# Altium schematic symbol library Personal_Schematic_Library_2022.SchLib: 863 symbols (part 4 of 8)
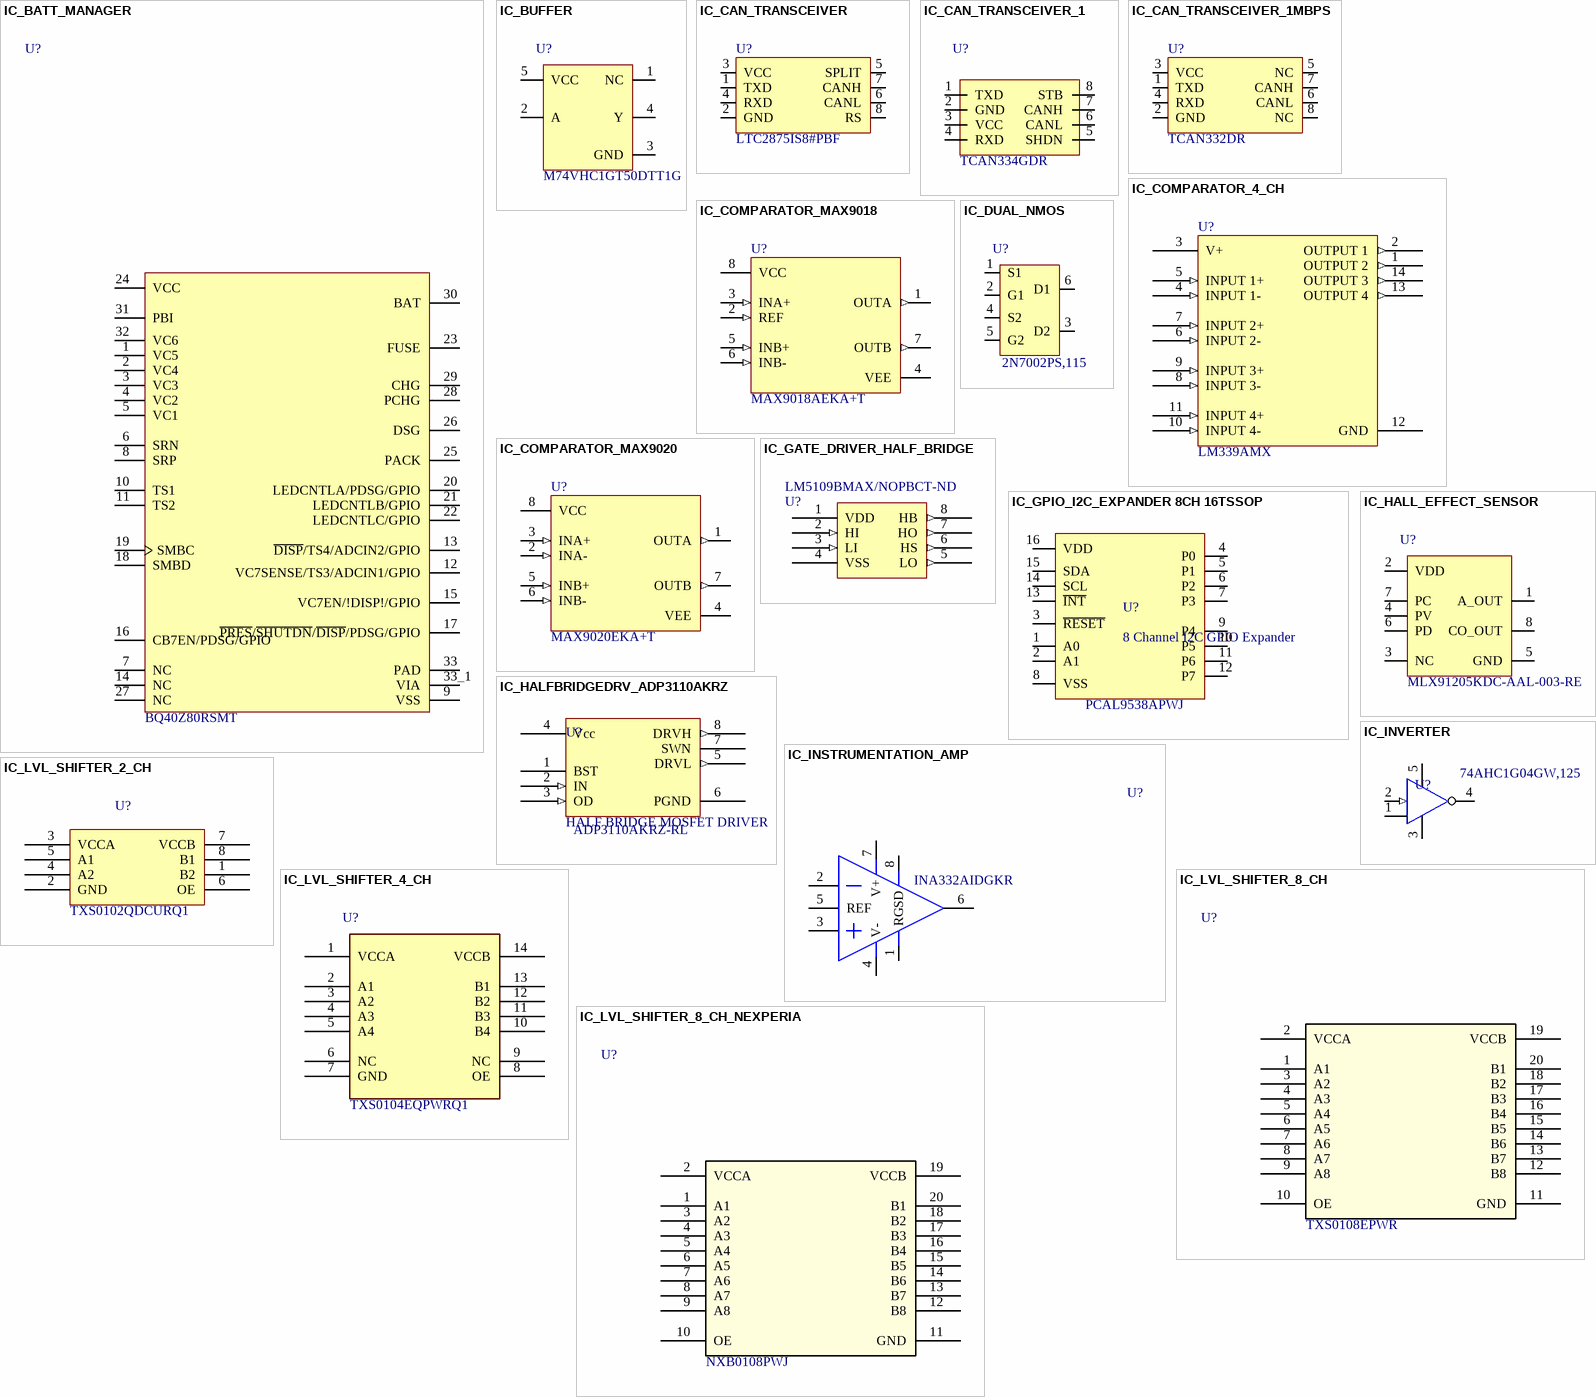
[diagram p32: symbols IC_BATT_MANAGER to IC_LVL_SHIFTER_8_CH_NEXPERIA]

## IC_DUAL_NMOS
designator U?  Manufacturer Part Number 1: 2N7002PS,115
IC DUAL N-CHANNEL MOSFET; Manufacturer 1: Nexperia; Supplier 1: Digi-Key; Supplier Part Number 1: 1727-4791-1-ND
footprint SOT-363
pins: 1 S1, 2 G1, 3 D2, 4 S2, 5 G2, 6 D1

## IC_GATE_DRIVER_HALF_BRIDGE
designator U?, comment LM5109BMAX/NOPBCT-ND
Half Bridge Based MOSFET Driver, 1A, PDSO8; Manufacturer: TI National Semiconductor; Package Body Material: Plastic; High Side Driver: Yes; Number of Functions: 1; Package Equivalence Code: SOP8,.25; Power Supplies: 12V; Max Supply Voltage: 14V; Min Supply Voltage: 8V; Turn-Off Delay Time: 0.056us; Qualification Status: Not Qualified; Supplier 1: Digi-Key; Manufacturer Part Number: LM5109BMAX/NOPB; RoHS: Yes; Category: Gate Drivers; Stock 1: 42623; Pricing 1: 1=1.05000, 10=0.93500, 25=0.88760, 100=0.72900, 250=0.68144, 500=0.60218, 1000=0.52325 (USD); Package Code: SOP; Number of Pins: 8; Package Shape: Rectangular; Terminal Finish: Tin; Min Operating Temperature: -40°C; Max Operating Temperature: 125°C; JESD-609 Code: e3; Interface IC Type: HALF BRIDGE BASED MOSFET DRIVER; JESD-30 Code: R-PDSO-G8; Moisture Sensitivity Level: 1; Package Style: SMALL OUTLINEMeter; Peak Reflow Temperature (Cel): 260°C; Supply Voltage-Nom: 12V; Surface Mount: Yes; Terminal Form: Gull Wing; Terminal Position: DUAL; Turn-On Delay Time: 0.056us; Length: 4.9mm; Width: 3.9mm; Height - Seated (Max): 1.75mm; Terminal Pitch: 1.27mm; Temperature Grade: AUTOMOTIVE; REACH SVHC: Yes; RoHS Compliant: Yes; ComponentLink1URL: https://www.ti.com:443/lit/ds/symlink/lm5109b.pdf?src-supplier=IHS+Markit; ComponentLink1Description: https://www.ti.com:443/lit/ds/symlink/lm5109b.pdf?src-supplier=IHS+Markit; ComponentLink2URL: https://datasheet.ciiva.com/6609/lm5109b-6609744.pdf?src-supplier=Digi-Key; ComponentLink2Description: https://datasheet.ciiva.com/6609/lm5109b-6609744.pdf?src-supplier=Digi-Key; ComponentLink3URL: https://datasheet.ciiva.com/41458/001014174-da-01-en-ic-dvr-half-b-lm5109bmax-nopb-soic-8-tid-41458460.pdf?src-supplier=Conrad; ComponentLink3Description: https://datasheet.ciiva.com/41458/001014174-da-01-en-ic-dvr-half-b-lm5109bmax-nopb-soic-8-tid-41458460.pdf?src-supplier=Conrad; ComponentLink4URL: https://datasheet.ciiva.com/6609/lm5109b-6609743.pdf?src-supplier=Digi-Key; ComponentLink4Description: https://datasheet.ciiva.com/6609/lm5109b-6609743.pdf?src-supplier=Digi-Key; Supplier Part Number 1: LM5109BMAX/NOPBCT-ND
footprint SOIC127P599X175-8N
pins: 1 VDD (power), 2 HI (in), 3 LI (in), 4 VSS (power), 5 LO (out), 6 HS (out), 7 HO (out), 8 HB (out)

## IC_GPIO_I2C_EXPANDER 8CH 16TSSOP
designator U?, comment 8 Channel I2C GPIO Expander
Manufacturer: NXP USA Inc.; Voltage - Supply: 1.65V ~ 5.5V; Clock Frequency: 400 kHz; Current - Output Source/Sink: 10mA, 25mA; Supplier 1: Digi-Key; Package / Case: 16-TSSOP; Operating Temperature: -40°C ~ 85°C; Supplier Part Number 1: 568-9924-1-ND
footprint TSSOP16
pins: 1 A0, 2 A1, 3 ~{RESET}, 4 P0, 5 P1, 6 P2, 7 P3, 8 VSS, 9 P4, 10 P5, 11 P6, 12 P7, 13 ~{INT}, 14 SCL, 15 SDA, 16 VDD
text: PCAL9538APWJ

## IC_HALFBRIDGEDRV_ADP3110AKRZ
designator U?, comment HALF BRIDGE MOSFET DRIVER  Manufacturer Part Number: ADP3110AKRZ-RL
Half Bridge Based MOSFET Driver, PDSO8; Manufacturer: ON Semiconductor; Package Body Material: Plastic; High Side Driver: Yes; Number of Functions: 1; Package Equivalence Code: SOP8,.25; Power Supplies: 12V; Max Supply Voltage: 13.2V; Min Supply Voltage: 4.15V; Turn-Off Delay Time: 0.07us; Turn-On Delay Time: 0.04us; Qualification Status: Not Qualified; Supplier 1: Digi-Key; RoHS: Yes; Category: Gate Drivers; Stock 1: 765; Pricing 1: 1=0.63000, 10=0.53700, 25=0.50080, 100=0.40070, 250=0.37208, 500=0.31482, 1000=0.24327 (USD); Package Code: SOP; Number of Pins: 8; Package Shape: Rectangular; Terminal Finish: Tin; Min Operating Temperature: 0°C; Max Operating Temperature: 85°C; JESD-609 Code: e3; Interface IC Type: HALF BRIDGE BASED MOSFET DRIVER; JESD-30 Code: R-PDSO-G8; Moisture Sensitivity Level: 1; Package Style: SMALL OUTLINEMeter; Supply Voltage-Nom: 12V; Surface Mount: Yes; Terminal Form: Gull Wing; Terminal Position: DUAL; Length: 4.9mm; Width: 3.9mm; Height - Seated (Max): 1.75mm; Terminal Pitch: 1.27mm; Temperature Grade: OTHER; REACH SVHC: Yes; RoHS Compliant: Yes; ComponentLink1URL: https://datasheet.ciiva.com:443/pdfs/VipMasterIC/IC/ONSM/ONSMS15049/ONSMS15049-1.pdf?src-supplier=IHS+Markit; ComponentLink1Description: https://datasheet.ciiva.com:443/pdfs/VipMasterIC/IC/ONSM/ONSMS15049/ONSMS15049-1.pdf?src-supplier=IHS+Markit; ComponentLink2URL: https://datasheet.ciiva.com/6613/adp3110a-d-6613106.pdf?src-supplier=Digi-Key; ComponentLink2Description: https://datasheet.ciiva.com/6613/adp3110a-d-6613106.pdf?src-supplier=Digi-Key; Supplier Part Number 1: ADP3110AKRZ-RLOSCT-ND
footprint 8-SOIC_M (SOIC, 8-Leads, Body 5x4mm, Pitch 1.27mm, IPC Low Density)
pins: 1 BST, 2 IN (in), 3 OD (in), 4 Vcc (power), 5 DRVL (out), 6 PGND (power), 7 SWN, 8 DRVH (out)

## IC_HALL_EFFECT_SENSOR
designator U?  Manufacturer Part Number 1: MLX91205KDC-AAL-003-RE  (hidden comment: IC_HALL_EFFECT_SENSOR)
SENSOR CURRENT HALL 10MT AC/DC; Manufacturer 1: Melexis; Package/Footprint: 8-SOIC; Linearity: 0.5%; Accuracy: 2%; Operating Supply Current: 11mA; Response Time: 8us; Max Supply Current: 16mA; Polarity: Bidirectional; Number of Channels: 1; Frequency: 100kHz; Output Current: 1mA; Supplier 1: Digi-Key; Mounting Type: SMD; Number of Pins: 8; Package Quantity: 1; Packaging: Tape and Reel; Supplier Part Number 1: MLX91205KDC-AAL-003-RECT-ND
footprint 8-SOIC_M (SOIC, 8-Leads, Body 5x4mm, Pitch 1.27mm, IPC Low Density)
pins: 1 A_OUT, 2 VDD, 3 NC, 4 PV, 5 GND, 6 PD, 7 PC, 8 CO_OUT

## IC_INSTRUMENTATION_AMP
designator U?  Manufacturer Part Number 1: INA332AIDGKR
IC INSTRUMENTATION AMP 1 CIRCUIT 8VSSOP; Manufacturer 1: Texas Instruments; Supplier 1: Digi-Key; Mounting Type: SMD; Supplier Part Number 1: 296-41265-1-ND; Package: 8-VSSOP
footprint INA332AIDGKR (Instrumentation amplifier, 8-VSSOP)
pins: 1 RG (power), 2 IN-, 3 IN+, 4 V-, 5 REF (power), 6 Vout, 7 V+ (power), 8 SD (power)

## IC_INVERTER
designator U?  Manufacturer Part Number 1: 74AHC1G04GW,125
IC INVERTER 1CH 1-INP 5TSSOP; Manufacturer 1: Nexperia USA Inc.; Package/Footprint: 5-TSSOP; Verfified: No; Supplier 1: Digi-Key; Supplier Part Number 1: 1727-3147-1-ND; Mounting Type: SMD; LCSC Part #: *
footprint SOT353 (TSSOP5, SC-70-5)
pins: 1 NC (hiz), 2 A (in), 3 GND, 4 Y, 5 Vcc

## IC_LVL_SHIFTER_2_CH
designator U?  Manufacturer Part Number 1: TXS0102QDCURQ1
IC TRNSLTR BIDIRECTIONAL US8; Manufacturer 1: Texas Instruments; Supplier 1: Digi-Key; Supplier Part Number 1: 296-37938-1-ND
footprint TXS0102QDCURQ1
pins: 1 B2, 2 GND, 3 VCCA, 4 A2, 5 A1, 6 OE, 7 VCCB, 8 B1

## IC_LVL_SHIFTER_4_CH
designator U?  Manufacturer Part Number 1: TXS0104EQPWRQ1
IC BIDIRECTIONAL LEVEL SHIFTER 4 CHANNEL 14TSSOP; Manufacturer 1: Texas Instruments; Data Rate: 24Mbps; Package/Footprint: 14-TSSOP; VCCA Voltage: 1.65 V ~ 3.6 V; VCCB Voltage: 2.3 V ~ 5.5 V; VCCA Max: 3V6 MAX; VCCB Max: 5V5 MAX; Supplier 1: Digi-Key; Mounting Type: SMD; Supplier Part Number 1: 296-41034-1-ND
footprint TXS0104EQPWRQ1
pins: 1 VCCA, 2 A1, 3 A2, 4 A3, 5 A4, 6 NC, 7 GND, 8 OE, 9 NC, 10 B4, 11 B3, 12 B2, 13 B1, 14 VCCB

## IC_LVL_SHIFTER_8_CH
designator U?  Manufacturer Part Number 1: TXS0108EPWR  (hidden comment: IC_LVL_SHIFTER_8_CH)
IC BIDIRECTIONAL LEVEL SHIFTER 8 CHANNEL 20TSSOP; Manufacturer 1: Texas Instruments; Package/Footprint: 20-TSSOP; Supplier 1: Digi-Key; Supplier Part Number 1: 296-23011-1-ND; Mounting Type: SMD
footprint LEVEL_SHIFTER_8_CHANNEL
pins: 1 A1, 2 VCCA, 3 A2, 4 A3, 5 A4, 6 A5, 7 A6, 8 A7, 9 A8, 10 OE, 11 GND, 12 B8, 13 B7, 14 B6, 15 B5, 16 B4, 17 B3, 18 B2, 19 VCCB, 20 B1

## IC_LVL_SHIFTER_8_CH_NEXPERIA
designator U?, comment Manufacturer Part Number 1: NXB0108PWJ  (hidden comment: IC_LVL_SHIFTER_8_CH)
IC BIDIRECTIONAL LEVEL SHIFTER 8 CHANNEL 20TSSOP NEXPERIA; Manufacturer 1: Nexperia USA Inc.; Package/Footprint: 20-TSSOP; Mounting Type: SMD; Supplier 1: Digi-Key; Supplier Part Number 1: 1727-NXB0108PWJDKR-ND
footprint LEVEL_SHIFTER_8_CHANNEL
pins: 1 A1, 2 VCCA, 3 A2, 4 A3, 5 A4, 6 A5, 7 A6, 8 A7, 9 A8, 10 OE, 11 GND, 12 B8, 13 B7, 14 B6, 15 B5, 16 B4, 17 B3, 18 B2, 19 VCCB, 20 B1

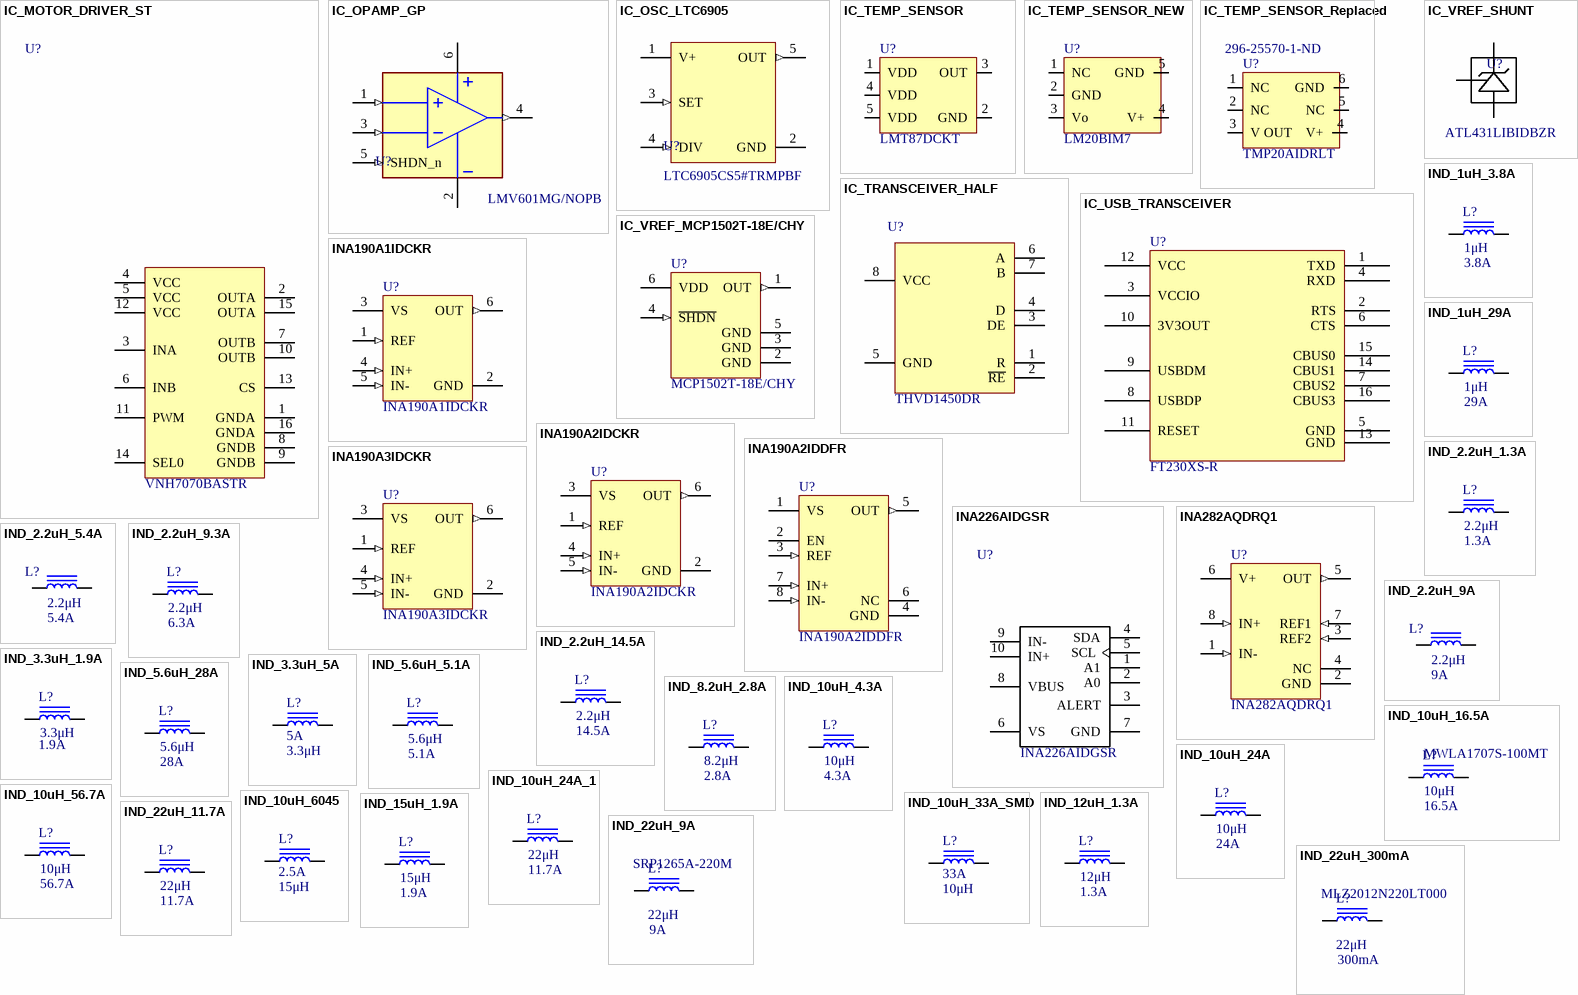
[diagram p11: symbols IC_MOTOR_DRIVER_ST to IND_22uH_300mA]

## IC_MOTOR_DRIVER_ST
designator U?  Manufacturer Part Number 1: VNH7070BASTR
IC MOTOR DRIVER 4V-28V 16SOIC; Manufacturer 1: STMicroelectronics; Package/Footprint: 16-SOIC; Output Current: 15A; Mounting Type: SMD; Verified: Yes; Supplier 1: Digi-Key; Supplier Part Number 1: 497-17628-1-ND
footprint SO-16N
pins: 1 GNDA (power) "Source of low-side switch A", 2 OUTA "Source of high-side switch A / drain of low-side switch A", 3 INA "Clockwise input", 4 VCC (power) "Power supply voltage", 5 VCC (power) "Power supply voltage", 6 INB "Counter clockwise input", 7 OUTB "Source of high-side switch B / drain of low-side switch B", 8 GNDB (power) "Source of low-side switch B", 9 GNDB (power) "Source of low-side switch B", 10 OUTB "Source of high-side switch B / drain of low-side switch B", 11 PWM "Voltage controlled input pin with hysteresis, CMOS compatible. Gates of low-side FETS get modulated by the PWM signal during their on phase allowing speed control of the motor", 12 VCC (power) "Power supply voltage", 13 CS "Multiplexed analog sense output pin; it delivers a current proportional to the motor current according to the leg selection.", 14 SEL0 "Active high compatible with 3 V and 5 V CMOS outputs pin; in combination with INA, INB, it addresses the CurrentSense information delivered to the micro according to the operative truth table.", 15 OUTA "Source of high-side switch A / drain of low-side switch A", 16 GNDA (power) "Source of low-side switch A"

## IC_OPAMP_GP
designator U?, comment LMV601MG/NOPB
IC OPAMP GP 1 CIRCUIT SC70-6; Manufacturer: Texas Instruments; Ratings: 2.7-5.5V, -25-125degC, 1MHz; Manufacturer Part Number: LMV601MG/NOPB; Value: LMV601MG/NOPB
footprint SOT65P210X110-6N
pins: 1 IN+ (in), 2 GND (power), 3 IN- (in), 4 OUT (out), 5 SHDN_n (in), 6 V+ (power)

## IC_OSC_LTC6905
designator U?, comment LTC6905CS5#TRMPBF
IC OSC SILICON PROG TSOT23-5; Manufacturer 1: Analog Devices Inc.; Package/Footprint: SOT-23-5; Manufacturer Part Number 1: LTC6905CS5#TRMPBF; Supplier 1: Digi-Key; Supplier Part Number 1: 505-LTC6905CS5#TRMPBFCT-ND
footprint SOT23-5
pins: 1 V+ (power), 2 GND (power), 3 SET (in), 4 DIV (in), 5 OUT (out)

## IC_TEMP_SENSOR
designator U?  Manufacturer Part Number 1: LMT87DCKT
SENSOR ANALOG -50C-150C SC70-5; Manufacturer 1: Texas Instruments; Package/Footprint: SC-70; Mounting Type: SMD; Supplier 1: Digi-Key; Supplier Part Number 1: 296-35730-1-ND
footprint SOT65P210X110-5N
pins: 1 VDD, 2 GND, 3 OUT, 4 VDD, 5 VDD

## IC_TEMP_SENSOR_NEW
designator U?  Manufacturer Part Number 1: LM20BIM7
SENSOR ANALOG -55C-130C SC70-5; Manufacturer 1: Texas Instruments; Package/Footprint: SC-70; Mounting Type: SMD; Supplier 1: Digi-Key; Supplier Part Number 1: LM20BIM7CT-ND
footprint SOT65P210X110-5N
pins: 1 NC, 2 GND, 3 Vo, 4 V+, 5 GND

## IC_TEMP_SENSOR_Replaced
designator U?  Manufacturer Part Number 1: TMP20AIDRLT  Supplier Part Number 1: 296-25570-1-ND
SENSOR ANALOG -55C-130C 6SOT; Manufacturer 1: Texas Instruments; Package/Footprint: SOT-563; Mounting Type: SMD; Supplier 1: Digi-Key
footprint DRL6-M
pins: 1 NC, 2 NC, 3 V OUT, 4 V+, 5 NC, 6 GND

## IC_TRANSCEIVER_HALF
designator U?  Manufacturer Part Number 1: THVD1450DR
IC TRANSCEIVER HALF 1/1 8SOIC; Manufacturer 1: Texas Instruments; Protocol: RS485; Supplier 1: Digi-Key; Supplier Part Number 1: 296-50395-1-ND; Package: 8-SOIC
footprint SOIC127P600X175-8N
pins: 1 R, 2 ~{RE}, 3 DE, 4 D, 5 GND, 6 A, 7 B, 8 VCC

## IC_USB_TRANSCEIVER
designator U?  Manufacturer Part Number 1: FT230XS-R
IC USB SERIAL BASIC UART 16SSOP; Manufacturer 1: FTDI, Future Technology Devices International Ltd; Supplier 1: Digi-Key; Supplier Part Number 1: 768-1135-1-ND
footprint SSOP16-0.635-5X4MM
pins: 1 TXD, 2 RTS, 3 VCCIO, 4 RXD, 5 GND, 6 CTS, 7 CBUS2, 8 USBDP, 9 USBDM, 10 3V3OUT, 11 RESET, 12 VCC, 13 GND, 14 CBUS1, 15 CBUS0, 16 CBUS3

## IC_VREF_MCP1502T-18E/CHY
designator U?  Manufacturer Part Number 1: MCP1502T-18E/CHY
IC 7 PPM 0.1% VOLTAGE REFERENCE; Manufacturer 1: Microchip Technology; Package/Footprint: SOT-23-6; Supplier 1: Digi-Key; Supplier Part Number 1: 150-MCP1502T-18E/CHYCT-ND
footprint SOT23-6 (SOT23, 6-Leads, Body 3.05x1.75mm, Pitch 0.95mm, IPC Medium Density)
pins: 1 OUT (out), 2 GND, 3 GND (power), 4 ~{SHDN} (in), 5 GND (power), 6 VDD (power)

## IC_VREF_SHUNT
designator U?  Manufacturer Part Number 1: ATL431LIBIDBZR
IC VREF SHUNT 36V 0.5% SOT23-3; Manufacturer 1: Texas Instruments; Supplier 1: Digi-Key; Supplier Part Number 1: 296-53203-1-ND
footprint SOT23-3 (SOT23, 3-Leads, Body 2.90x2.30mm, Pitch 0.95mm, IPC Medium Density)
pins: 1 CATHODE, 2 REF, 3 ANODE

## INA190A1IDCKR
designator U?  Manufacturer Part Number 1: INA190A1IDCKR
IC CURR SENSE 1 CIRCUIT SC70-6; Manufacturer 1: Texas Instruments; Package/Footprint: 6-TSSOP; Supplier 1: Digi-Key; Supplier Part Number 1: 296-INA190A1IDCKRCT-ND
footprint TI_SC-70-6
pins: 1 REF (in), 2 GND, 3 VS (power), 4 IN+ (in), 5 IN- (in), 6 OUT (out)

## INA190A2IDCKR
designator U?  Manufacturer Part Number 1: INA190A2IDCKR
IC CURR SENSE 1 CIRCUIT SC70-6; Manufacturer 1: Texas Instruments; Package/Footprint: 6-TSSOP; Supplier 1: Digi-Key; Supplier Part Number 1: 296-INA190A2IDCKRCT-ND
footprint TI_SC-70-6
pins: 1 REF (in), 2 GND, 3 VS (power), 4 IN+ (in), 5 IN- (in), 6 OUT (out)

## INA190A2IDDFR
designator U?  Manufacturer Part Number 1: INA190A2IDDFR
IC CURR SENSE 1 CIRCUIT SOT23-8; Manufacturer 1: Texas Instruments; Package/Footprint: SOT23-8; Supplier 1: Digi-Key; Supplier Part Number 1: 296-INA190A2IDDFRCT-ND
footprint TI_SOT23-8
pins: 1 VS (power), 2 EN, 3 REF (in), 4 GND, 5 OUT (out), 6 NC, 7 IN+ (in), 8 IN- (in)

## INA190A3IDCKR
designator U?  Manufacturer Part Number 1: INA190A3IDCKR
IC CURR SENSE 1 CIRCUIT SC70-6; Manufacturer 1: Texas Instruments; Package/Footprint: 6-TSSOP; Supplier 1: Digi-Key; Supplier Part Number 1: 296-INA190A3IDCKRCT-ND
footprint TI_SC-70-6
pins: 1 REF (in), 2 GND, 3 VS (power), 4 IN+ (in), 5 IN- (in), 6 OUT (out)

## INA226AIDGSR
designator U?  Manufacturer Part Number 1: INA226AIDGSR
IC MONITOR PWR/CURR BIDIR 10MSOP; Manufacturer 1: Texas Instruments; Supplier 1: Digi-Key; Supplier Part Number 1: 296-29034-6-ND
footprint INA226AIDGSR
pins: 1 A1, 2 A0, 3 ALERT, 4 SDA, 5 SCL, 6 VS, 7 GND, 8 VBUS, 9 IN-, 10 IN+

## INA282AQDRQ1
designator U?  Manufacturer Part Number 1: INA282AQDRQ1
IC CURRENT MONITOR 0.4% 8SOIC; Manufacturer 1: Texas Instruments; Package/Footprint: 8-SOIC; Supplier 1: Digi-Key; Supplier Part Number 1: 296-36595-1-ND
footprint 8-SOIC_M (SOIC, 8-Leads, Body 5x4mm, Pitch 1.27mm, IPC Low Density)
pins: 1 IN- (in), 2 GND, 3 REF2 (in), 4 NC, 5 OUT (out), 6 V+ (power), 7 REF1 (in), 8 IN+ (in)

## IND_1uH_3.8A
designator L?  value 1μH  Current Rating: 3.8A
INDUCTOR 1UH 3.8A 33 MOHM SMD; Manufacturer 1: Bourns Inc.; Manufacturer Part Number 1: SDR0403-1R0ML; Supplier Part Number 1: SDR0403-1R0MLCT-ND; Supplier 1: Digi-Key; Mounting Type: SMD; Package/Footprint: SMD
footprint IND_BOURNS_SDR04
pins: 1, 2

## IND_1uH_29A
designator L?  Current Rating: 29A  Inductance: 1μH
INDUCTOR 1UH 29A 2.5 MOHM SMD; Manufacturer 1: Bourns Inc.; Manufacturer Part Number 1: SRP1250-1R0M; Inductance Tolerance: 20%; Saturation Current: 50A; Test Frequency: 100kHz; DC Resistance (DCR): 2.5mOhm; Mounting Type: SMD; Supplier 1: Digi-Key; Supplier Part Number 1: SRP1250-1R0MCT-ND
footprint IND_BOURNS_SRP1250
pins: 1, 2

## IND_2.2uH_1.3A
designator L?  Current Rating: 1.3A  Inductance: 2.2μH
FIXED IND 2.2UH 1.3A 100MOHM SMD; Manufacturer 1: Murata Power Solutions Inc.; Manufacturer Part Number 1: LQM2HPN2R2MG0L; DC Resistance (DCR): 100mΩ; Saturation Current: 1.3A; Supplier 1: Digi-Key; Supplier Part Number 1: 2266-LQM2HPN2R2MG0L-ND
footprint IND_1008
pins: 1, 2

## IND_2.2uH_5.4A
designator L?  Current Rating: 5.4A  Inductance: 2.2μH
FIXED IND 2.2UH 5.4A 46MOHM SMD; Manufacturer 1: Vishay Dale; Manufacturer Part Number 1: IHLP1210BZEZ2R2M5A; Supplier 1: Digi-Key; Mounting Type: SMD; DC Resistance (DCR): 46mOhm; Supplier Part Number 1: 541-IHLP1210BZEZ2R2M5ACT-ND
footprint IND_1210
pins: 1, 2

## IND_2.2uH_9.3A
designator L?  Inductance: 2.2μH  Max DC Current: 6.3A
INDUCTOR 2.2UH 6.3A 13 MOHM SMD; Manufacturer 1: Bourns; Manufacturer Part Number 1: SRN8040-2R2Y; Material: Steel; DC Resistance (DCR): 13mR; Self Resonant Frequency: 40MHz; Test Frequency: 100kHz; Shielding: Shielded; Inductance Tolerance: 30%; Saturation Current: 7.4A; Supplier 1: Digi-Key; Mounting Type: SMD; Package/Footprint: SMD; Number of Pins: 2; Contact Plating: Tin; Composition: Wirewound; DC Current: 6.3A; Military Standard: Not; RMS Current (Irms): 6.3A; Current Rating: 6.3A; ComponentLink7URL: https://datasheet.ciiva.com/1049/srn8040-1049455.pdf?src-supplier=Digi-Key; ComponentLink7Description: https://datasheet.ciiva.com/1049/srn8040-1049455.pdf?src-supplier=Digi-Key; ComponentLink8URL: https://datasheet.ciiva.com/17284/srn8040-17284783.pdf?src-supplier=Avnet+Europe; ComponentLink8Description: https://datasheet.ciiva.com/17284/srn8040-17284783.pdf?src-supplier=Avnet+Europe; ComponentLink9URL: https://datasheet.ciiva.com/48691/001056460-da-01-en-mag-abg-leist-ind-srn8040-2r2y-2-2uh-smd-48691836.pdf?src-supplier=Conrad; ComponentLink9Description: https://datasheet.ciiva.com/48691/001056460-da-01-en-mag-abg-leist-ind-srn8040-2r2y-2-2uh-smd-48691836.pdf?src-supplier=Conrad; Supplier Part Number 1: SRN8040-2R2YCT-ND
footprint IND_BOURNS_SRN80
pins: 1, 2

## IND_2.2uH_9A
designator L?  Current Rating: 9A  Inductance: 2.2μH
INDUCTOR 2.2UH 9A 6.8 MOHM SMD; Manufacturer 1: Bourns; Manufacturer Part Number 1: SDR1806-2R2ML; Supplier 1: Digi-Key; Mounting Type: SMD; DC Resistance (DCR): 6.8mOhm; Supplier Part Number 1: SDR1806-2R2MLCT-ND
footprint IND_BOURNS_SDR1806
pins: 1, 2

## IND_2.2uH_14.5A
designator L?  Current Rating: 14.5A  Inductance: 2.2μH
INDUCTOR 2.2UH 14.5A 9.41 MOHM; Manufacturer 1: Vishay Dale; Manufacturer Part Number 1: IHLP3232DZER2R2M11; Inductance Tolerance: 20%; Saturation Current: 10.2A; DC Resistance (DCR): 9.41mOhm; Mounting Type: SMD; Supplier 1: Digi-Key; Supplier Part Number 1: 541-1350-1-ND
footprint IND_VISHAY_IHLP3232DZER2R2M11
pins: 1, 2

## IND_3.3uH_1.9A
designator L?  DC Current: 1.9A  Inductance: 3.3μH
INDUCTOR 3.3UH SMD 0603; Manufacturer 1: KEMET; Manufacturer Part Number 1: L0603B3R3MDWFT; Saturation Current: 2.3A; Supplier 1: Digi-Key; RMS Current (Irms): 1.9A; Current Rating: 1.9A; Supplier Part Number 1: SRN6045-150MCT-ND
footprint IND_BOURNS_SRN6045
pins: 1, 2

## IND_3.3uH_5A
designator L?  Current Rating: 5A  Inductance: 3.3μH
INDUCTOR 3.3UH 5A 21 MOHM SMD; Manufacturer 1: Bourns Inc.; Manufacturer Part Number 1: SRN6045TA-3R3Y; DC Resistance (DCR): 21mOhm; Inductance Tolerance: 30%; Saturation Current: 7.8A; Test Frequency: 1MHz; Mounting Type: SMD; Supplier 1: Digi-Key; Supplier Part Number 1: SRN6045TA-3R3YCT-ND
footprint IND_SRN6045TA-3R3Y
pins: 1, 2

## IND_5.6uH_5.1A
designator L?  Current Rating: 5.1A  Inductance: 5.6μH
POWER INDUCTOR 4040; 5.6 H; 5.1A; Manufacturer 1: Würth Elektronik; Manufacturer Part Number 1: 74439325056; DC Resistance (DCR): 44.4mOhm; Inductance Tolerance: 20%; Saturation Current: 5.5A; Mounting Type: SMD; Supplier 1: Digi-Key; Supplier Part Number 1: 732-74439325056CT-ND
footprint IND_WURTH_4040
pins: 1, 2

## IND_5.6uH_28A
designator L?  Current Rating: 28A  Inductance: 5.6μH
FIXED IND 5.6UH 28A 4.44MOHM SMD; Manufacturer 1: Vishay Dale; Manufacturer Part Number 1: IHLP6767GZER5R6M11; Inductance Tolerance: 20%; Saturation Current: 21A; DC Resistance (DCR): 4.44mOhm; Mounting Type: SMD; Supplier 1: Digi-Key; Supplier Part Number 1: 541-1283-1-ND
footprint IND_VISHAY_IHLP6767GZ11 (Molded Inductor, 2-Leads, Body 17.15x17.03mm, IPC Medium Density)
pins: 1, 2

## IND_8.2uH_2.8A
designator L?  value 8.2μH  Current Rating: 2.8A
FIXED IND 8.2UH 2.8A 86 MOHM SMD; Manufacturer 1: Würth Elektronik; Manufacturer Part Number 1: 74438357082; Supplier Part Number 1: 732-11205-1-ND; Supplier 1: Digi-Key; Mounting Type: SMD; Package/Footprint: SMD
footprint IND_WURTH_1616
pins: 1, 2

## IND_10uH_4.3A
designator L?  value 10μH  Current Rating: 4.3A
FIXED IND 10UH 4.3A 28 MOHM SMD; Manufacturer 1: Murata Electronics; Manufacturer Part Number 1: #B966AS-100M=P3; Supplier Part Number 1: 490-14123-1-ND; Supplier 1: Digi-Key; Mounting Type: SMD; Package/Footprint: SMD
footprint IND_MURATA_DS106C2
pins: 1, 2

## IND_10uH_16.5A
designator L?  Manufacturer Part Number 1: MWLA1707S-100MT  Current Rating: 16.5A  Inductance: 10μH
FIXED IND 10UH 13MOHM 24000MA; Manufacturer 1: Shenzhen Sunlord Electronics Co., Ltd.; DC Resistance (DCR): 13mR; Saturation Current: 24A; Supplier 1: Digi-Key; Supplier Part Number 1: 3442-MWLA1707S-100MTCT-ND
footprint IND_Shenzen_Sunlord_MWLA1707
pins: 1, 2

## IND_10uH_24A
designator L?  Current Rating: 24A  Inductance: 10μH
FIXED IND 10UH 24A 8.6 MOHM SMD; Manufacturer 1: Pulse Electronics Power; Manufacturer Part Number 1: PA2247.103NLT; DC Resistance (DCR): 8.6mR; Saturation Current: 26A; Supplier 1: Digi-Key; Supplier Part Number 1: 553-PA2247.103NLTCT-ND
footprint IND_PULSE_PA2247
pins: 1, 2

## IND_10uH_24A_1
designator L?  Current Rating: 11.7A  Inductance: 22μH
INDUCTOR 22UH 11.7A 22.27 MOHM; Manufacturer 1: Vishay Dale; Manufacturer Part Number 1: IHLP6767GZER220M51; DC Resistance (DCR): 22.27mR; Inductance Tolerance: 20%; Saturation Current: 11A; Supplier 1: Digi-Key; Supplier Part Number 1: 541-1369-1-ND; Mounting Type: SMD
footprint IND_VISHAY_IHLP6767GZ51
pins: 1, 2

## IND_10uH_33A_SMD
designator L?  Current Rating: 33A  Inductance: 10μH
FIXED IND 10UH 33A 1.92 MOHM SMD; Manufacturer 1: EPCOS - TDK Electronics; Manufacturer Part Number 1: B82559B7103A027; Supplier Part Number 1: 495-B82559B7103A027CT-ND; Supplier 1: Digi-Key
footprint IND_B82559B7103A027 (Precision Wire Wound Inductor, 2-Leads, Body 27.65x25.65mm, IPC Medium Density)
pins: 1, 2

## IND_10uH_56.7A
designator L?  Current Rating: 56.7A  Inductance: 10μH
FIXED IND 10UH 56.7A 1.2 MOHM TH; Manufacturer 1: Würth Elektronik; Manufacturer Part Number 1: 7443763540100; DC Resistance (DCR): 1.2mΩ; Saturation Current: 62A; Supplier 1: Digikey; Supplier Part Number 1: 732-13640-ND
footprint IND_WURTH_HCFT_TH
pins: 1, 2

## IND_10uH_6045
designator L?  Current Rating: 2.5A  Inductance: 15μH
INDUCTOR 10UH 2.5A 58.6MOHM SMD; Manufacturer 1: Bourns Inc.; Manufacturer Part Number 1: SRN6045-100M; Supplier Part Number 1: SRN6045-100MTR-ND; Supplier 1: Digi-Key
footprint IND_BOURNS_SRN6045
pins: 1, 2

## IND_12uH_1.3A
designator L?  value 12μH  Current Rating: 1.3A
FIXED IND 12UH 1.3A 135 MOHM SMD; Manufacturer 1: Abracon LLC; Manufacturer Part Number 1: ASPI-4030S-120M-T; Supplier Part Number 1: 535-ASPI-4030S-120M-TCT-ND; Supplier 1: Digi-Key; Mounting Type: SMD; Package/Footprint: SMD
footprint IND_ABRACON_ASPI4030S
pins: 1, 2

## IND_15uH_1.9A
designator L?  Current Rating: 1.9A  Inductance: 15μH
INDUCTOR 15UH 1.9A 95.8MOHM SMD; Manufacturer 1: Bourns Inc.; Manufacturer Part Number 1: SRN6045-150M; DC Resistance (DCR): 95.8mR; Saturation Current: 2.3A; Supplier 1: Digi-Key; Supplier Part Number 1: SRN6045-150MCT-ND
footprint IND_BOURNS_SRN6045
pins: 1, 2

## IND_22uH_9A
designator L?  Manufacturer Part Number 1: SRP1265A-220M  Current Rating: 9A  Inductance: 22μH
22UH 20%  SMD POWER CHOKE; Manufacturer 1: Bourns Inc.; DC Resistance (DCR): 37mOhms; Saturation Current: 12A; Inductance Tolerance: 20%; Mounting Type: SMD; Supplier 1: Arrow Electronics; Supplier Part Number 1: SRP1265A-220M
footprint IND_BOURNS_SRP1265
pins: 1, 2

## IND_22uH_11.7A
designator L?  Current Rating: 11.7A  Inductance: 22μH
FIXED IND 10UH 13MOHM 24000MA; Manufacturer 1: Vishay Dale; Manufacturer Part Number 1: IHLP6767GZER220M51; DC Resistance (DCR): 22.27mR; Inductance Tolerance: 20%; Saturation Current: 11A; Supplier 1: Digi-Key; Supplier Part Number 1: 541-1369-1-ND; Mounting Type: SMD
footprint IND_VISHAY_IHLP6767GZ51
pins: 1, 2

## IND_22uH_300mA
designator L?  Manufacturer Part Number 1: MLZ2012N220LT000  Current Rating: 300mA  Inductance: 22μH
FIXED IND 22UH 300MA 670 MOHM; Manufacturer 1: TDK; DC Resistance (DCR): 670mOhms; Inductance Tolerance: 20%; Saturation Current: 70mA; Mounting Type: SMD; Supplier 1: DigiKey; Supplier Part Number 1: 445-9495-6-ND
footprint RES0805 (Chip Resistor, 2-Leads, Body 2.00x1.25mm, IPC High Density)
pins: 1, 2

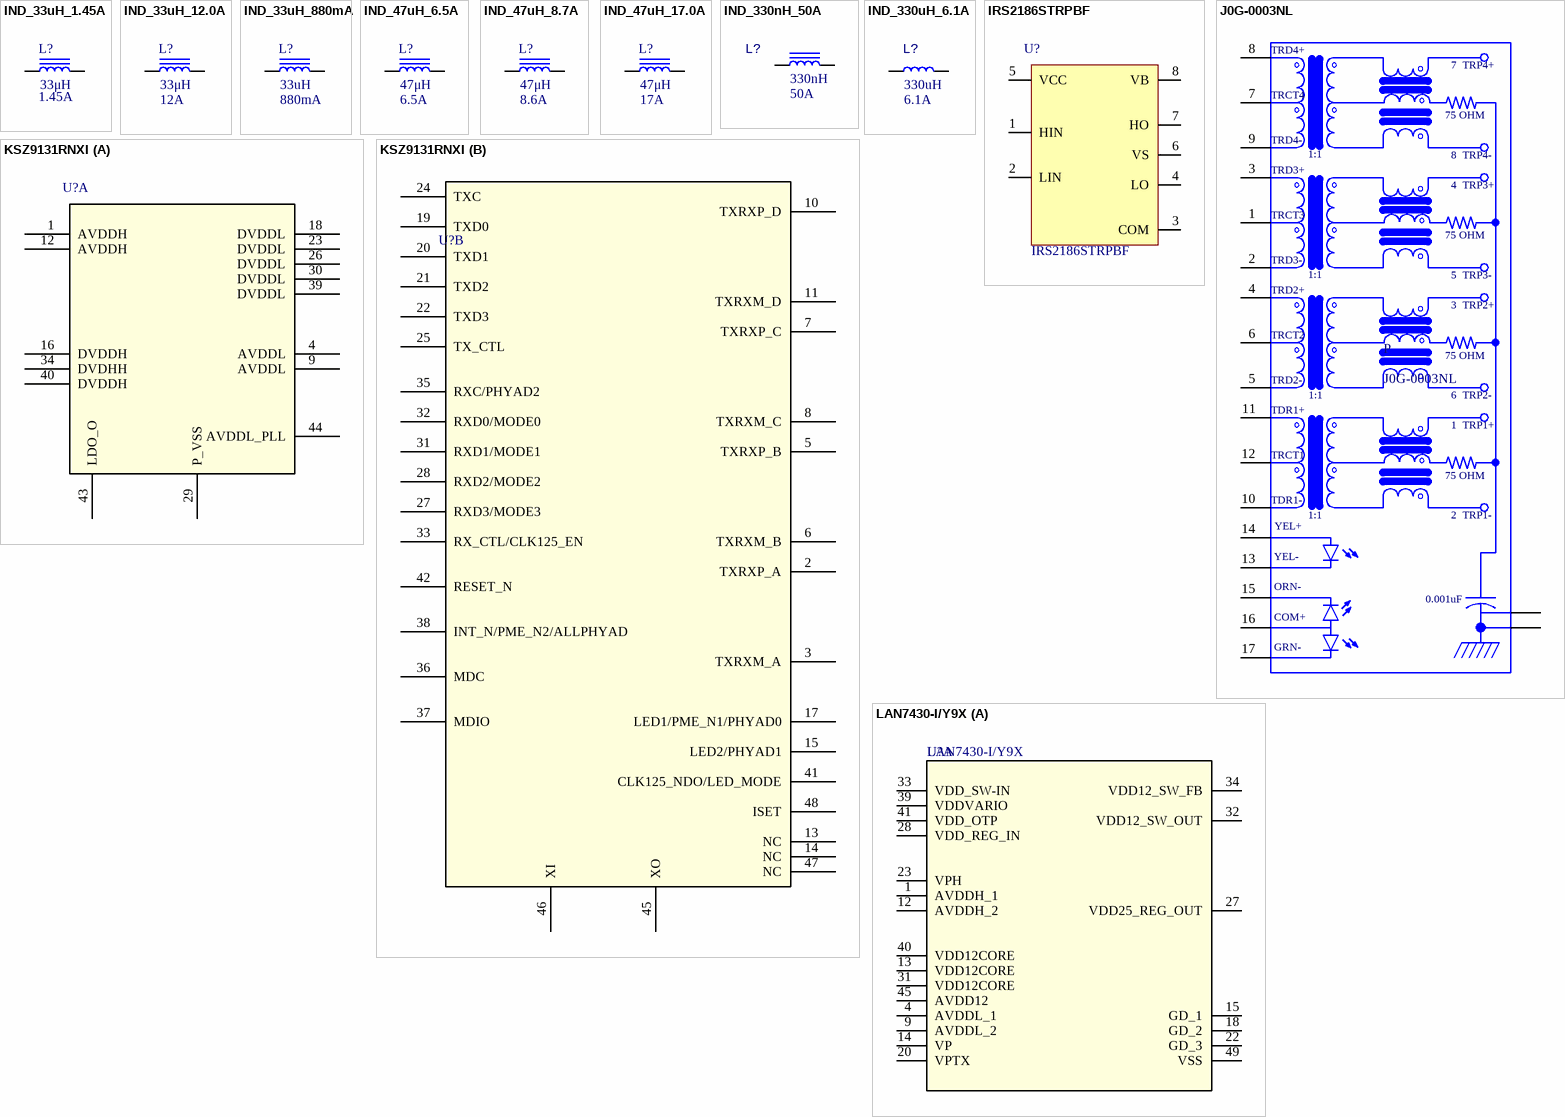
[diagram p12: symbols IND_33uH_1.45A to LAN7430-I/Y9X]

## IND_33uH_1.45A
designator L?  DC Current: 1.45A  Inductance: 33μH
INDUCTOR 33UH 1.45A SMD ROHS; Manufacturer 1: CENKER; Manufacturer Part Number 1: CKCS6045-33uH; DC Resistance (DCR): 137mΩ; RMS Current (Irms): 1.45A; LCSC Number: C354635
footprint IND_CKCS6045
pins: 1, 2

## IND_33uH_12.0A
designator L?  Current Rating: 12A  Inductance: 33μH
INDUCTOR 33UH 12A 37 MOHM SMD; Manufacturer 1: Pulse Electronics Power; Manufacturer Part Number 1: PA4344.333ANLT; DC Resistance (DCR): 37mR; Inductance Tolerance: 20%; Saturation Current: 12A; Mounting Type: SMD; Supplier 1: Digi-Key; Supplier Part Number 1: 553-4036-1-ND
footprint IND_PULSE_PA4344
pins: 1, 2

## IND_33uH_880mA
designator L?  RMS Current (Irms): 880mA  Inductance: 33uH  (hidden comment: IND_33uH_880mA)
INDUCTOR 33UH 880MA 250MOHM SMD; Manufacturer 1: Bourns; Manufacturer Part Number 1: SDR0604-330KL; DC Resistance (DCR): 250mR; Inductance Tolerance: 10%; Saturation Current: 1.1A; Supplier 1: Digi-Key; Max DC Current: 880mA; DC Current: 880mA; Military Standard: Not; Current Rating: 880mA; Supplier Part Number 1: SDR0604-330KLCT-ND
footprint IND_BOURNS_SDR0604
pins: 1, 2

## IND_47uH_6.5A
designator L?  Current Rating: 6.5A  Inductance: 47μH
FIXED IND 47UH 6.5A 90 MOHM SMD; Manufacturer 1: Bourns Inc.; Manufacturer Part Number 1: SRP1265A-470M; DC Resistance (DCR): 90mR; Saturation Current: 9A; Supplier 1: Digi-Key; Supplier Part Number 1: SRP1265A-470MCT-ND
footprint IND_BOURNS_SRP1265
pins: 1, 2

## IND_47uH_8.7A
designator L?  Saturation Current: 8.6A  Inductance: 47μH
INDUCTOR 47UH 8.7A 42.7 MOHM; Manufacturer 1: Vishay Dale; Manufacturer Part Number 1: IHLP6767GZER220M51; DC Resistance (DCR): 42.7mR; Current Rating: 8.7A; Mounting Type: SMD; Supplier 1: Digi-Key; Supplier Part Number 1: 541-1290-1-ND
footprint IND_VISHAY_IHLP6767GZ51
pins: 1, 2

## IND_47uH_17.0A
designator L?  Current Rating: 17A  Inductance: 47μH
INDUCTOR 47UH 17A 20.8 MOHM SMD; Manufacturer 1: Pulse Electronics Power; Manufacturer Part Number 1: PA4349.473ANLT; DC Resistance (DCR): 20.8mR; Inductance Tolerance: 20%; Saturation Current: 12A; Mounting Type: SMD; Supplier 1: Digi-Key; Supplier Part Number 1: 553-4050-1-ND
footprint IND_PULSE_PA4349
pins: 1, 2

## IND_330nH_50A
designator L?  Max DC Current: 50A  Inductance: 330nH
INDUCTOR 330NH 47.5A 0.165 MOHM; Manufacturer 1: Würth Elektronik; Manufacturer Part Number 1: 744309033; Mounting Type: SMD; Supplier 1: Digi-Key; Supplier Part Number 1: 732-3006-1-ND; Verified: No
footprint WE-HCM 1390 (SMD Inductor, 2-Leads, Body 12,50x13,00mm)
pins: 1, 2

## IND_330uH_6.1A
designator L?  Current Rating: 6.1A  Inductance: 330uH
General Purpose Inductor; Manufacturer: Wurth Electronics; Manufacturer Part Number: 74437529203331; Supplier 1: Digi-Key; RoHS: Yes; Category: Fixed Inductors; Stock 1: 443; Pricing 1: 1=8.85000, 50=7.76200, 100=6.93000, 270=6.30000 (USD); Inductor Type: GENERAL PURPOSE INDUCTOR; REACH SVHC: Yes; RoHS Compliant: Yes; ComponentLink1URL: https://datasheet.ciiva.com:443/pdfs/VipMasterIC/IC/MIDC/MIDC-S-A0004023785/MIDC-S-A0004024368-1.pdf?src-supplier=IHS+Markit; ComponentLink1Description: https://datasheet.ciiva.com:443/pdfs/VipMasterIC/IC/MIDC/MIDC-S-A0004023785/MIDC-S-A0004024368-1.pdf?src-supplier=IHS+Markit; ComponentLink2URL: https://katalog.we-online.de/pbs/datasheet/74437529203331.pdf?src-supplier=Digi-Key; ComponentLink2Description: https://katalog.we-online.de/pbs/datasheet/74437529203331.pdf?src-supplier=Digi-Key; Supplier Part Number 1: 732-11718-ND
footprint 74437529203331
pins: 1, 2

## IRS2186STRPBF
designator U?  Manufacturer Part Number 1: IRS2186STRPBF
IC DRIVER HI/LO SIDE 600V 8-SOIC; Manufacturer 1: International Rectifier; Max Supply Current: 240uA; Number of Outputs: 2; Max Power Dissipation: 625mW; Fall Time: 30ns; Turn-Off Delay Time: 170ns; Rise Time: 38ns; Propagation Delay: 250ns; Max Output Current: 4A; Supplier 1: Digi-Key; Number of Pins: 8; Number of Drivers: 2; Turn-On Delay Time: 170ns; Power Dissipation: 625mW; Output Current: 4A; Supplier Part Number 1: IRS2186STRPBFCT-ND
footprint 8-SOIC_M (SOIC, 8-Leads, Body 5x4mm, Pitch 1.27mm, IPC Low Density)
pins: 1 HIN, 2 LIN, 3 COM, 4 LO, 5 VCC, 6 VS, 7 HO, 8 VB

## J0G-0003NL
designator P
1 Port RJ45 Magjack Connector Through Hole 10/100/1000 Base-T, AutoMDIX; MF: Pulse Electronics; Digi-Key_Part_Number: 553-1852-ND; Package: Custom Package Pulse Electronics Network; MP: J0G-0003NL; SnapEDA_Link: https://www.snapeda.com/parts/J0G-0003NL/Pulse%20Electronics%20Network/view-part/368728/?ref=snap; Digi-Key_Purchase_URL: https://www.digikey.com/product-detail/en/pulse-electronics-network/J0G-0003NL/553-1852-ND/2264761?utm_source=snapeda&utm_medium=aggregator&utm_campaign=symbol; Value: *
footprint PULSE_J0G-0003NL
pins: 1 TRCT3, 2 TRD3-, 3 TRD3+, 4 TRD2+, 5 TRD2-, 6 TRCT2, 7 TRCT4, 8 TRD4+, 9 TRD4-, 10 TDR1-, 11 TDR1+, 12 TRCT1, 13 YEL-, 14 YEL+, 15 ORN-, 16 COM+, 17 GRN-, SH1 SHIELD (power), SH2 SHIELD (power)
text: 7  TRP4+; 75 OHM; 1:1; 8  TRP4-; 4  TRP3+; 5  TRP3-; 3  TRP2+; 6  TRP2-; 1  TRP1+; 2  TRP1-; 0.001uF

## KSZ9131RNXI
designator U?
4/4 Transceiver Full, Half Gigabit Ethernet 48-QFN (7x7); Manufacturer 1: Microchip Technology; Manufacturer Part Number 1: KSZ9131RNXI; Supplier 1: Digi-Key; Supplier Part Number 1: 150-KSZ9131RNXI-ND
footprint KSZ9131RNXI
part A pins: 1 AVDDH (power), 4 AVDDL (power), 9 AVDDL (power), 12 AVDDH (power), 16 DVDDH (power), 18 DVDDL (power), 23 DVDDL (power), 26 DVDDL (power), 29 P_VSS (power), 30 DVDDL (power), 34 DVDHH (power), 39 DVDDL (power), 40 DVDDH (power), 43 LDO_O (power), 44 AVDDL_PLL (power)
part B pins: 2 TXRXP_A, 3 TXRXM_A, 5 TXRXP_B, 6 TXRXM_B, 7 TXRXP_C, 8 TXRXM_C, 10 TXRXP_D, 11 TXRXM_D, 13 NC, 14 NC, 15 LED2/PHYAD1, 17 LED1/PME_N1/PHYAD0, 19 TXD0, 20 TXD1, 21 TXD2, 22 TXD3, 24 TXC, 25 TX_CTL, 27 RXD3/MODE3, 28 RXD2/MODE2, 31 RXD1/MODE1, 32 RXD0/MODE0, 33 RX_CTL/CLK125_EN, 35 RXC/PHYAD2, 36 MDC, 37 MDIO, 38 INT_N/PME_N2/ALLPHYAD, 41 CLK125_NDO/LED_MODE, 42 RESET_N, 45 XO, 46 XI, 47 NC, 48 ISET

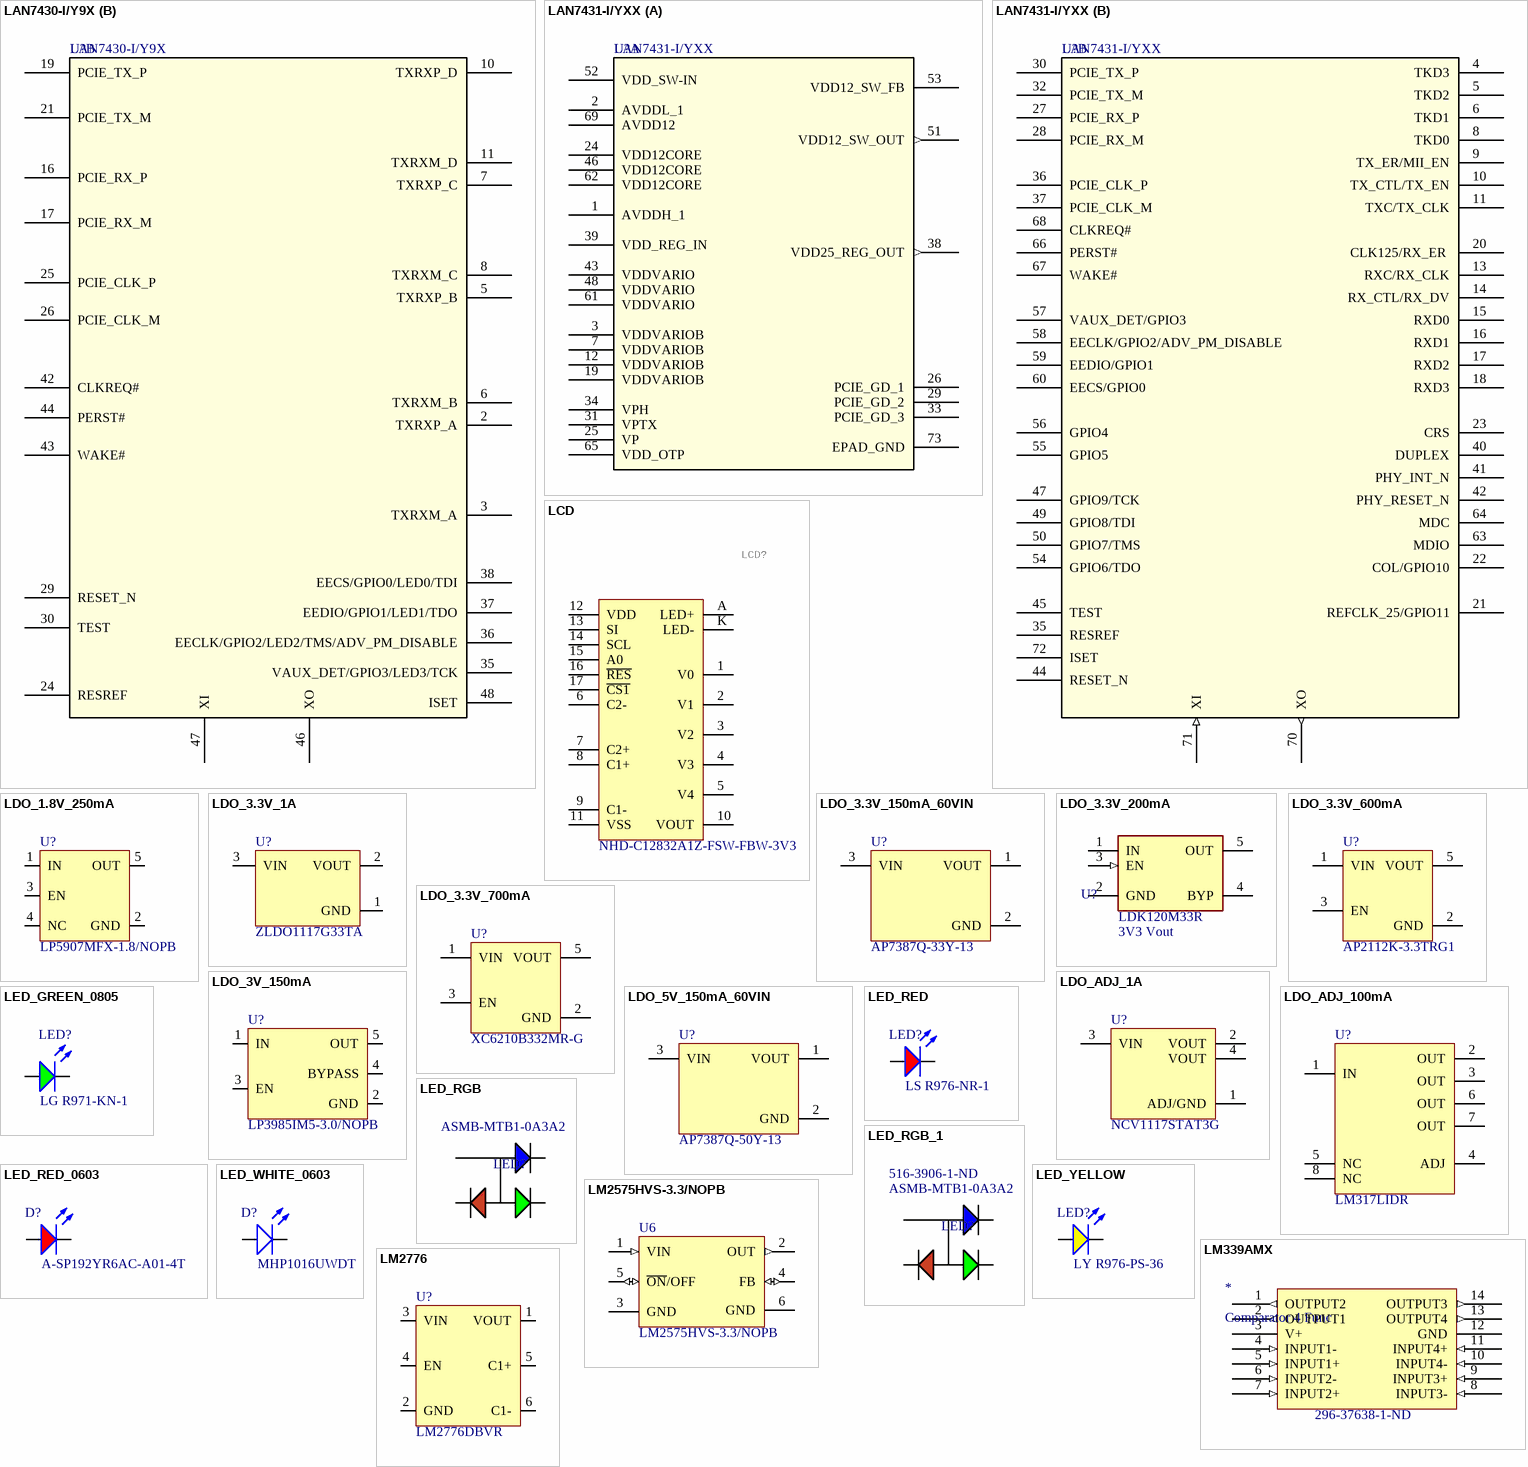
[diagram p13: symbols LAN7430-I/Y9X to LM2776]

## LAN7430-I/Y9X
designator U?  Manufacturer Part Number 1: LAN7430-I/Y9X
IC ETHERNET CNTRLR GPIO 48SQFN; Manufacturer 1: Microchip Technology; Supplier 1: Digi-Key; Supplier Part Number 1: LAN7430-I/Y9X-ND
footprint LAN7430-I/Y9X-ND
part A pins: 1 AVDDH_1, 4 AVDDL_1, 9 AVDDL_2, 12 AVDDH_2, 13 VDD12CORE, 14 VP, 15 GD_1, 18 GD_2, 20 VPTX, 22 GD_3, 23 VPH, 27 VDD25_REG_OUT, 28 VDD_REG_IN, 31 VDD12CORE, 32 VDD12_SW_OUT, 33 VDD_SW-IN, 34 VDD12_SW_FB, 39 VDDVARIO, 40 VDD12CORE, 41 VDD_OTP, 45 AVDD12, 49 VSS
part B pins: 2 TXRXP_A, 3 TXRXM_A, 5 TXRXP_B, 6 TXRXM_B, 7 TXRXP_C, 8 TXRXM_C, 10 TXRXP_D, 11 TXRXM_D, 16 PCIE_RX_P, 17 PCIE_RX_M, 19 PCIE_TX_P, 21 PCIE_TX_M, 24 RESREF, 25 PCIE_CLK_P, 26 PCIE_CLK_M, 29 RESET_N, 30 TEST, 35 VAUX_DET/GPIO3/LED3/TCK, 36 EECLK/GPIO2/LED2/TMS/ADV_PM_DISABLE, 37 EEDIO/GPIO1/LED1/TDO, 38 EECS/GPIO0/LED0/TDI, 42 CLKREQ#, 43 WAKE#, 44 PERST#, 46 XO, 47 XI, 48 ISET

## LAN7431-I/YXX
designator U?  Manufacturer Part Number 1: LAN7431-I/YXX
IC ETHERNET CNTRLR GPIO 72SQFN; Manufacturer 1: Microchip; Supplier 1: Digi-Key; Supplier Part Number 1: LAN7431-I/YXX-ND
part A pins: 1 AVDDH_1 (power), 2 AVDDL_1 (power), 3 VDDVARIOB (power), 7 VDDVARIOB (power), 12 VDDVARIOB (power), 19 VDDVARIOB (power), 24 VDD12CORE (power), 25 VP (power), 26 PCIE_GD_1 (power), 29 PCIE_GD_2 (power), 31 VPTX (power), 33 PCIE_GD_3 (power), 34 VPH (power), 38 VDD25_REG_OUT (out), 39 VDD_REG_IN (power), 43 VDDVARIO (power), 46 VDD12CORE (power), 48 VDDVARIO (power), 51 VDD12_SW_OUT (out), 52 VDD_SW-IN (power), 53 VDD12_SW_FB (power), 61 VDDVARIO (power), 62 VDD12CORE (power), 65 VDD_OTP (power), 69 AVDD12 (power), 73 EPAD_GND
part B pins: 4 TKD3, 5 TKD2, 6 TKD1, 8 TKD0, 9 TX_ER/MII_EN, 10 TX_CTL/TX_EN, 11 TXC/TX_CLK, 13 RXC/RX_CLK, 14 RX_CTL/RX_DV, 15 RXD0, 16 RXD1, 17 RXD2, 18 RXD3, 20 CLK125/RX_ER , 21 REFCLK_25/GPIO11, 22 COL/GPIO10, 23 CRS, 27 PCIE_RX_P, 28 PCIE_RX_M, 30 PCIE_TX_P, 32 PCIE_TX_M, 35 RESREF, 36 PCIE_CLK_P, 37 PCIE_CLK_M, 40 DUPLEX, 41 PHY_INT_N, 42 PHY_RESET_N, 44 RESET_N, 45 TEST, 47 GPIO9/TCK, 49 GPIO8/TDI, 50 GPIO7/TMS, 54 GPIO6/TDO, 55 GPIO5, 56 GPIO4, 57 VAUX_DET/GPIO3, 58 EECLK/GPIO2/ADV_PM_DISABLE, 59 EEDIO/GPIO1, 60 EECS/GPIO0, 63 MDIO, 64 MDC, 66 PERST#, 67 WAKE#, 68 CLKREQ#, 70 XO (out), 71 XI (in), 72 ISET

## LCD
designator LCD?  Manufacturer Part Number 1: NHD-C12832A1Z-FSW-FBW-3V3
LCD COG GRAPHIC 128X32; Manufacturer 1: Newhaven Display Intl; Supplier 1: Digi-Key; Supplier Part Number 1: NHD-C12832A1Z-FSW-FBW-3V3-ND
footprint NHDC12832A1ZFSWFBW3V3
pins: 1 V0, 2 V1, 3 V2, 4 V3, 5 V4, 6 C2-, 7 C2+, 8 C1+, 9 C1-, 10 VOUT, 11 VSS, 12 VDD, 13 SI, 14 SCL, 15 A0, 16 ~{RES}, 17 ~{CS1}, A LED+, K LED-

## LDO_1.8V_250mA
designator U?  Manufacturer Part Number 1: LP5907MFX-1.8/NOPB
IC REG LINEAR 1.8V 250MA SOT23-5; Manufacturer 1: Texas Instruments; Current Output: 250mA; Supplier Part Number 1: 296-41463-1-ND; Supplier 1: Digi-Key
footprint LP5907MFX-1.8/NOPB
pins: 1 IN, 2 GND, 3 EN, 4 NC, 5 OUT

## LDO_3.3V_1A
designator U?  Manufacturer Part Number 1: ZLDO1117G33TA
IC REG LINEAR 3.3V 1A SOT223; Manufacturer 1: Diodes Incorperated; Input Voltage (Max): 18V; Voltage Dropout (Max): 1.3V@1A; Package/Footprint: SOT-224; Supplier 1: Digi-Key; Supplier Part Number 1: ZLDO1117G33DICT-ND; Output Voltage (Fixed): 3.3V; Output Current: 1A; Operating Temperature: -40°C - 125°C; Mounting Type: Surface Mount
footprint ZLDO1117G33TA (SOT223, 4-Leads, Body 6.50x7.00mm (avg), Pitch 2.30mm, IPC Medium Density)
pins: 1 GND, 2 VOUT, 3 VIN

## LDO_3.3V_150mA_60VIN
designator U?  Manufacturer Part Number 1: AP7387Q-33Y-13
IC REG LINEAR 3.3V 150MA SOT89-3; Manufacturer 1: Diodes Incorporated; Current Output: 150mA; Supplier Part Number 1: 31-AP7387Q-33Y-13CT-ND; Supplier 1: Digi-Key
footprint SOT89
pins: 1 VOUT (power), 2 GND (power), 3 VIN (power)

## LDO_3.3V_200mA
designator U?  Rating: 3V3 Vout  Manufacturer Part Number: LDK120M33R  (hidden comment: *)
IC REG LINEAR 3.3V 200MA SOT23-5
footprint SOT23-5
pins: 1 IN (power), 2 GND (power), 3 EN (in), 4 BYP, 5 OUT (power)

## LDO_3.3V_600mA
designator U?  Manufacturer Part Number 1: AP2112K-3.3TRG1
IC REG LINEAR 3.3V 600MA SOT25; Manufacturer 1: Diodes Incorporated; Input Voltage (Max): 6V; Voltage Dropout (Max): 0.4V; Package/Footprint: SOT-25; Supplier 1: Digi-Key; Supplier Part Number 1: AP2112K-3.3TRG1DICT-ND; Output Voltage (Fixed): 3.3V; Output Current: 600mA; Operating Temperature: -40°C - 85°C; LCSC Part #: C51118; Mounting Type: SMD
footprint SOT95P285X140-5N (AP2112K-3.3TRG1 LDO)
pins: 1 VIN, 2 GND, 3 EN, 5 VOUT

## LDO_3.3V_700mA
designator U?  Manufacturer Part Number 1: XC6210B332MR-G
IC REG LINEAR 3.3V 700MA SOT25; Manufacturer 1: Diodes Incorporated; Input Voltage (Max): 6V; Voltage Dropout (Max): 0.075V; Package/Footprint: SOT-25; Output Voltage (Fixed): 3.3V; Output Current: 700mA; Operating Temperature: -40°C - 85°C; Mounting Type: SMD; Supplier 1: Digi-Key; Supplier Part Number 1: 893-1075-1-ND
footprint SOT95P285X140-5N (AP2112K-3.3TRG1 LDO)
pins: 1 VIN, 2 GND, 3 EN, 5 VOUT

## LDO_3V_150mA
designator U?  Manufacturer Part Number 1: LP3985IM5-3.0/NOPB
IC REG LINEAR 3V 150MA SOT23-5; Manufacturer 1: Texas Instruments; Current Output: 150mA; Supplier Part Number 1: LP3985IM5-3.0/NOPBTR-ND; Supplier 1: Digi-Key
footprint SOT23-5
pins: 1 IN, 2 GND, 3 EN, 4 BYPASS, 5 OUT

## LDO_5V_150mA_60VIN
designator U?  Manufacturer Part Number 1: AP7387Q-50Y-13
IC REG LINEAR 5V 150MA SOT89-3; Manufacturer 1: Diodes Incorporated; Current Output: 150mA; Supplier Part Number 1: 31-AP7387Q-50Y-13CT-ND; Supplier 1: Digi-Key
footprint SOT89
pins: 1 VOUT (power), 2 GND (power), 3 VIN (power)

## LDO_ADJ_1A
designator U?  Manufacturer Part Number 1: NCV1117STAT3G
IC REG LINEAR POS ADJ 1A SOT223; Manufacturer 1: onsemi; Input Voltage (Max): 20V; Output Voltage (Min): 1.25V; Voltage Dropout (Max): 1.2V; Package/Footprint: SOT-223; Output Current: 1A; Operating Temperature: -40°C - 85°C; Mounting Type: SMD; Supplier 1: Digi-Key; Supplier Part Number 1: NCV1117STAT3GOSCT-ND
footprint SOT223 (SOT223, 4-Leads, Body 6.50x7.00mm (avg), Pitch 2.30mm, IPC Medium Density)
pins: 1 ADJ/GND, 2 VOUT (power), 3 VIN (power), 4 VOUT (power)

## LDO_ADJ_100mA
designator U?  Manufacturer Part Number 1: LM317LIDR
IC REG LIN POS ADJ 100MA 8SOIC; Manufacturer 1: Texas Instruments; PSRR: 80dB ~ 65dB (120Hz); Voltage - Input (Max): 38V; Voltage - Output (Min/Fixed): 1.2V; Voltage - Output (Max): 32V; Current - Output: 100mA; Operating Temperature: -40C = 125C; Mounting Type: Surface Mount; Supplier 1: Digi-Key; Supplier Part Number 1: 296-20678-1-ND
footprint LM317LIDR (SOIC-8 LDO)
pins: 1 IN (power) "Unregulated input supply", 2 OUT (power) "Regulator output. A 1.0uF or larger capacitor of any type is required for stability.", 3 OUT (power) "Regulator output. A 1.0uF or larger capacitor of any type is required for stability.", 4 ADJ (power) "Regulator output. A 1.0uF or larger capacitor of any type is required for stability.", 5 NC (power) "Unregulated input supply", 6 OUT (power) "Regulator output. A 1.0uF or larger capacitor of any type is required for stability.", 7 OUT (power) "Regulator output. A 1.0uF or larger capacitor of any type is required for stability.", 8 NC (power) "Unregulated input supply"

## LED_GREEN_0805
designator LED?  Manufacturer Part Number 1: LG R971-KN-1
LED GREEN DIFFUSED 0805 SMD; Manufacturer 1: OSRAM; Forward Voltage Drop: 2.2V; Package/Footprint: 0805; Supplier Part Number 1: 475-1410-1-ND; Supplier 1: Digi-Key; Mounting Type: SMD
footprint LED_0805_GREEN (SMD, 2-Leads, Body 2x1.25mm)
pins: 1 A, 2 K

## LED_RED
designator LED?  Manufacturer Part Number 1: LS R976-NR-1
LED RED DIFFUSED 0805 SMD; Manufacturer 1: OSRAM; Package/Footprint: 0805; Forward Voltage Drop: 2V; Supplier Part Number 1: 475-1278-1-ND; Supplier 1: Digi-Key; Mounting Type: SMD
footprint LED_0805_RED (SMD, 2-Leads, Body 2x1.25mm)
pins: 1 A, 2 K

## LED_RED_0603
designator D?  Manufacturer Part Number 1: A-SP192YR6AC-A01-4T
LED RED WATER-CLEAR 0603 SMD; Manufacturer 1: Amicc; Package/Footprint: 0603; Forward Voltage Drop: 2.3V; Supplier Part Number 1: C5355430; Supplier 1: LCSC; Mounting Type: SMD
footprint LED_0603 (SMD, 2-Leads, Body 2x1.25mm)
pins: 1 K, 2 A

## LED_RGB
designator LED?  Manufacturer Part Number 1: ASMB-MTB1-0A3A2
LED RGB DIFFUSED 4PLCC SMD; Manufacturer 1: Broadcom; Color: Blue,Green,Red; Lens Color: White; Viewing Angle: 115°; Lens Style: Round; Luminous Intensity: 350mcd; Dominant Wavelength: 470nm; Forward Voltage: 3.1V; Test Current: 20mA; Package/Footprint: 4-PLCC; Supplier 1: Digi-Key; Mounting Type: SMD; Number of Pins: 4; Lens Transparency: Diffused; Supplier Part Number 1: 516-3280-1-ND
footprint LED_RGB
pins: 1 CATHODE (RED), 2 CATHODE (GREEN), 3 CATHODE (BLUE), 4 COMMON ANODE

## LED_RGB_1
designator LED?  Manufacturer Part Number 1: ASMB-MTB1-0A3A2  Supplier Part Number 1: 516-3906-1-ND
LED RGB DIFFUSED 4PLCC SMD; Manufacturer 1: Broadcom; Color: Blue,Green,Red; Lens Color: White; Viewing Angle: 115°; Lens Style: Round; Luminous Intensity: 350mcd; Dominant Wavelength: 470nm; Forward Voltage: 3.1V; Test Current: 20mA; Package/Footprint: 4-PLCC; Mounting Type: SMD; Number of Pins: 4; Lens Transparency: Diffused; Supplier 1: Digi-Key
footprint LED_RGB
pins: 1 CATHODE (RED), 2 CATHODE (GREEN), 3 CATHODE (BLUE), 4 COMMON ANODE

## LED_WHITE_0603
designator D?  Manufacturer Part Number 1: MHP1016UWDT
LED WHITE FROSTED-LENS 0603 SMD; Manufacturer 1: MEIHUA; Package/Footprint: 0603; Forward Voltage Drop: 3.5V; Supplier Part Number 1: C409776; Supplier 1: LCSC; Mounting Type: SMD
footprint LED_0603 (SMD, 2-Leads, Body 2x1.25mm)
pins: 1 K, 2 A

## LED_YELLOW
designator LED?  Manufacturer Part Number 1: LY R976-PS-36
LED YELLOW DIFFUSED 0805 SMD; Manufacturer 1: OSRAM; Forward Voltage Drop: 2.2V; Package: 0805 (2012 Metric); Supplier Part Number 1: 475-2560-1-ND; Supplier 1: Digi-Key
footprint LED_0805_YELLOW (SMD, 2-Leads, Body 2x1.25mm)
pins: 1 A, 2 K

## LM339AMX
designator *, comment Comparator 4 Func  Supplier Part Number 1: 296-37638-1-ND
Comparator, 4 Func, 5000uV Offset-Max, 1300ns Response Time, BIPolar, PDSO14; Manufacturer: TI National Semiconductor; Manufacturer Part Number: LM339AMX; Package Body Material: Plastic; Output Type: OPEN-COLLECTOR; Average Bias Current-Max (IIB): 400nA; Bias Current-Max (IIB) @25C: 250nA; Input Offset Voltage-Max: 4mV; Neg Supply Voltage Limit-Max: 0V; Number of Functions: 4; Package Equivalence Code: SOP14,.25; Power Supplies: 5V; Max Supply Current: 2.5mA; Supply Voltage Limit-Max: 36V; Qualification Status: Not Qualified; Supplier 1: Digi-Key; RoHS: No; Category: Comparators; Stock 1: 4510; Pricing 1: 1=1.51000, 10=1.35100, 25=1.28200, 100=1.05320, 250=0.98452, 500=0.87004, 1000=0.75600 (USD); Package Code: SOP; Number of Pins: 14; Package Shape: Rectangular; Terminal Finish: Tin; Min Operating Temperature: -25°C; Max Operating Temperature: 85°C; JESD-609 Code: e0; Amplifier Type: COMPARATOR; JESD-30 Code: R-PDSO-G14; Moisture Sensitivity Level: 1; Neg Supply Voltage-Nom (Vsup): 0V; Package Style: SMALL OUTLINEMeter; Peak Reflow Temperature (Cel): 235°C; Response Time-Nom: 1300ns; Supply Voltage-Nom (Vsup): 5V; Surface Mount: Yes; Technology: BIPOLAR; Terminal Form: Gull Wing; Terminal Position: DUAL; Length: 8.65mm; Width: 3.9mm; Height - Seated (Max): 1.75mm; Terminal Pitch: 1.27mm; Temperature Grade: OTHER; REACH SVHC: No SVHC; RoHS Compliant: No; ComponentLink1URL: https://www.ti.com:443/lit/ds/symlink/lm139-n.pdf?src-supplier=IHS+Markit; ComponentLink1Description: https://www.ti.com:443/lit/ds/symlink/lm139-n.pdf?src-supplier=IHS+Markit; ComponentLink2URL: https://datasheet.ciiva.com/41798/lm139-n-41798943.pdf?src-supplier=Digi-Key; ComponentLink2Description: https://datasheet.ciiva.com/41798/lm139-n-41798943.pdf?src-supplier=Digi-Key
footprint 14-SOIC
pins: 1 OUTPUT2 (out), 2 OUTPUT1 (out), 3 V+ (power), 4 INPUT1- (in), 5 INPUT1+ (in), 6 INPUT2- (in), 7 INPUT2+ (in), 8 INPUT3- (in), 9 INPUT3+ (in), 10 INPUT4- (in), 11 INPUT4+ (in), 12 GND (power), 13 OUTPUT4 (out), 14 OUTPUT3 (out)

## LM2575HVS-3.3/NOPB
designator U6
Package: None; Price: None; Value: *; MP: LM2575HVS-3.3/NOPB; Availability: Unavailable; Manufacturer Part Number 1: LM2575HVS-3.3/NOPB
footprint VREG_TPS79625KTTR
pins: 1 VIN (in), 2 OUT (out), 3 GND (power), 4 FB (io), 5 ~{ON}/OFF (io), 6 GND (power)

## LM2776
designator U?  Manufacturer Part Number 1: LM2776DBVR
IC REG CHARGE PUMP INV SOT23; Manufacturer 1: Texas Instruments; Supplier Part Number 1: 296-43957-1-ND; Supplier 1: Digi-Key
footprint SOT23-6 (SOT23, 6-Leads, Body 3.05x1.75mm, Pitch 0.95mm, IPC Medium Density)
pins: 1 VOUT, 2 GND, 3 VIN, 4 EN, 5 C1+, 6 C1-

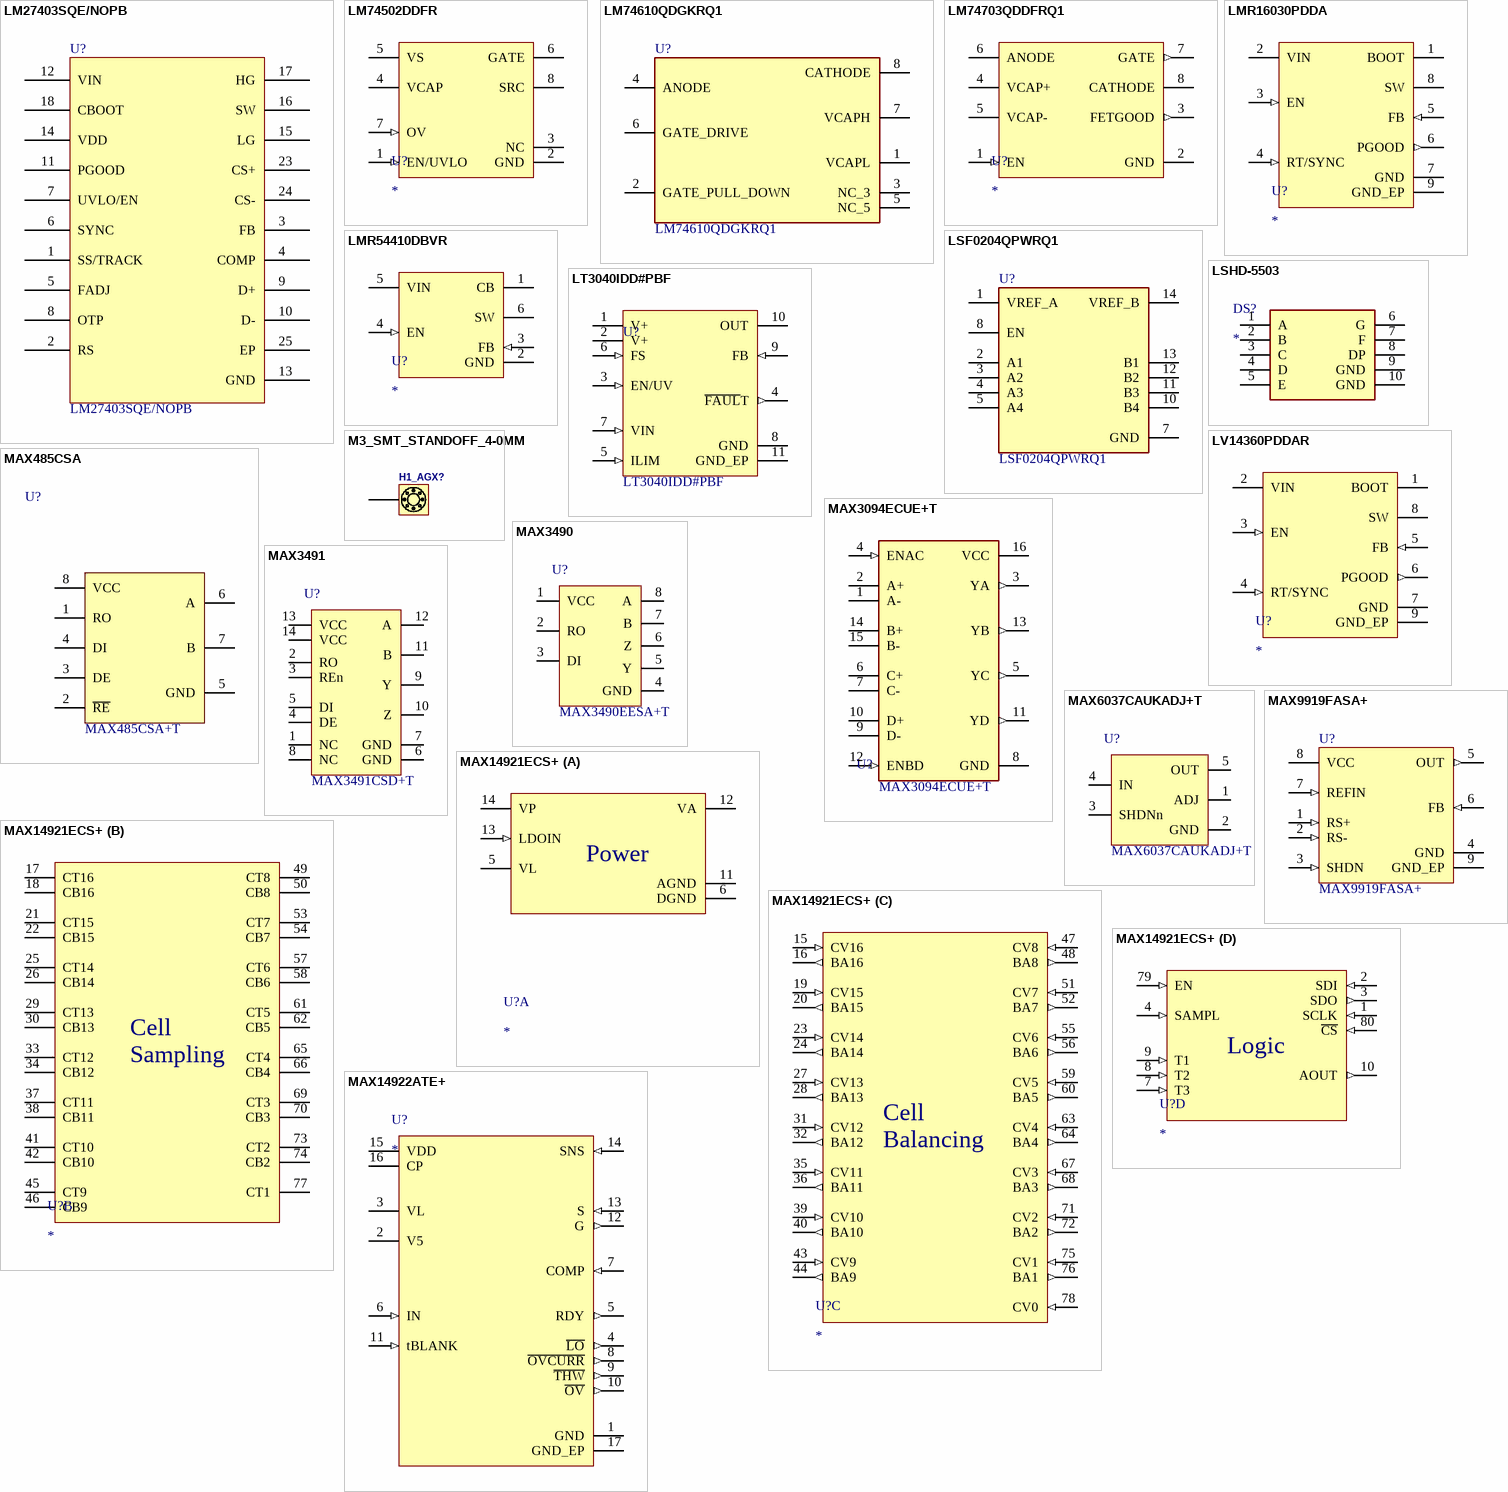
[diagram p14: symbols LM27403SQE/NOPB to MAX14922ATE+]

## LM27403SQE/NOPB
designator U?  Manufacturer Part Number 1: LM27403SQE/NOPB
IC REG CTRLR BUCK 24WQFN; Manufacturer 1: Texas Instruments; Supply Voltage: 3V - 20V; Switching Frequency: 200kHz - 1.2MHz; Max Duty Cycle: 93%; Supplier Part Number 1: 296-37066-1-ND; Supplier 1: Digi-Key; Package: 24-WQFN Exposed Pad
footprint QFN50P400X400X80-25N
pins: 1 SS/TRACK, 2 RS, 3 FB, 4 COMP, 5 FADJ, 6 SYNC, 7 UVLO/EN, 8 OTP, 9 D+, 10 D-, 11 PGOOD, 12 VIN, 13 GND, 14 VDD, 15 LG, 16 SW, 17 HG, 18 CBOOT, 23 CS+, 24 CS-, 25 EP

## LM74502DDFR
designator U?
3.2-V TO 65-V INDUSTRIAL RPP CON; Manufacturer 1: Texas Instruments; Manufacturer Part Number 1: LM74502DDFR; Package/Footprint: SOT-23; Supplier 1: Digikey; Supplier Part Number 1: 296-LM74502DDFRCT-ND
footprint TI_SOT23-8
pins: 1 EN/UVLO (in), 2 GND (power), 3 NC, 4 VCAP (power), 5 VS (power), 6 GATE (power), 7 OV (in), 8 SRC (power)

## LM74610QDGKRQ1
designator U?  Manufacturer Part Number 1: LM74610QDGKRQ1
IC SMART DIODE CTLR 8VSSOP; Manufacturer 1: Texas Instruments; Supply Voltage (Max): 42V; Package/Footprint: 8-TSSOP; Supplier 1: Digi-Key; Supplier Part Number 1: 296-43067-1-ND; LCSC Part #: C202259; Mounting Type: SMD
footprint SOP65P490X110-8N
pins: 1 VCAPL, 2 GATE_PULL_DOWN, 3 NC_3, 4 ANODE, 5 NC_5, 6 GATE_DRIVE, 7 VCAPH, 8 CATHODE

## LM74703QDDFRQ1
designator U?
AUTOMOTIVE IDEAL DIODE CONTROLLE; Manufacturer 1: Texas Instruments; Manufacturer Part Number 1: LM74703QDDFRQ1; Package/Footprint: SOT-23; Supplier 1: Digikey; Supplier Part Number 1: 296-LM74703QDDFRQ1CT-ND
footprint TI_SOT23-8
pins: 1 EN (in), 2 GND (power), 3 FETGOOD (out), 4 VCAP+ (power), 5 VCAP- (power), 6 ANODE (power), 7 GATE (out), 8 CATHODE (power)

## LMR16030PDDA
designator U?
IC REG BUCK ADJ 3A 8SOPWR; Manufacturer 1: Texas Instruments; Manufacturer Part Number 1: LMR16030PDDA; Package/Footprint: 8-PowerSOIC; Supplier 1: Digikey; Supplier Part Number 1: 296-44513-5-ND
footprint TI_8-PowerPad-SOIC
pins: 1 BOOT (power), 2 VIN (power), 3 EN (in), 4 RT/SYNC (in), 5 FB (in), 6 PGOOD (out), 7 GND (power), 8 SW (power), 9 GND_EP (power)

## LMR54410DBVR
designator U?
IC REG BUCK ADJ 1A SOT23-6; Manufacturer 1: Texas Instruments; Manufacturer Part Number 1: LMR54410DBVR; Package/Footprint: SOT-23-6; Supplier 1: Digikey; Supplier Part Number 1: 296-LMR54410DBVRCT-ND
footprint SOT23-6 (SOT23, 6-Leads, Body 3.05x1.75mm, Pitch 0.95mm, IPC Medium Density)
pins: 1 CB (power), 2 GND (power), 3 FB (in), 4 EN (in), 5 VIN (power), 6 SW (power)

## LSF0204QPWRQ1
designator U?  Manufacturer Part Number 1: LSF0204QPWRQ1
4-BITS MULTI-VOLTAGE LEVEL TRANS; Manufacturer 1: Texas Instruments; Channel Type: Bidirectional; Channels per Circuit: 4; Output Type: Open Drain, Push Pull; Data Rate: 100MBd; Voltage - VCCA: 0.8V - 4.5V; Voltage - VCCB: 1.8V - 5.5V; Supplier 1: Digi-Key; Supplier Part Number 1: 296-51425-1-ND; Package: 14-TSSOP
footprint 14-TSSOP
pins: 1 VREF_A, 2 A1, 3 A2, 4 A3, 5 A4, 7 GND, 8 EN, 10 B4, 11 B3, 12 B2, 13 B1, 14 VREF_B

## LSHD-5503
designator DS?
DISPLAY 7SEG 0.56" SGL RED 10DIP; Manufacturer_Name: Lite-On; Datasheet Link: https://componentsearchengine.com/Datasheets/1/LSHD-5503.pdf; Height: 8.25mm; Manufacturer Part Number 1: LSHD-5503; Mouser Part Number: 859-LSHD-5503; Mouser Price/Stock: https://www.mouser.com/Search/Refine.aspx?Keyword=859-LSHD-5503; Arrow Part Number: LSHD-5503; Arrow Price/Stock: https://www.arrow.com/en/products/lshd-5503/lite-on-technology; Supplier Link: https://www.digikey.ca/en/products/detail/lite-on-inc/LSHD-5503/560009
footprint DIPS1524W50P254L1240H825Q10N
pins: 1 A, 2 B, 3 C, 4 D, 5 E, 6 G, 7 F, 8 DP, 9 GND, 10 GND

## LT3040IDD#PBF
designator U?  Manufacturer Part Number 1: LT3040IDD#PBF
IC REG LIN POS ADJ 200MA 10DFN; Manufacturer 1: Analog Devices Inc./Maxim Integrated; Package/Footprint: 10-WFDFN; Supplier 1: Digi-Key; Supplier Part Number 1: 161-LT3040IDD#PBF-ND
footprint LT_10-DFN
pins: 1 V+ (power), 2 V+ (power), 3 EN/UV (in), 4 ~{FAUL}T (out), 5 ILIM (in), 6 FS (in), 7 VIN (in), 8 GND (power), 9 FB (in), 10 OUT (power), 11 GND_EP (power)

## LV14360PDDAR
designator U?
IC REG BUCK ADJ 3A 8SOPWR; Manufacturer 1: Texas Instruments; Manufacturer Part Number 1: LV14360PDDAR; Package/Footprint: 8-PowerSOIC; Supplier 1: Digikey; Supplier Part Number 1: 296-LV14360PDDARCT-ND
footprint TI_8-PowerPad-SOIC
pins: 1 BOOT (power), 2 VIN (power), 3 EN (in), 4 RT/SYNC (in), 5 FB (in), 6 PGOOD (out), 7 GND (power), 8 SW (power), 9 GND_EP (power)

## M3_SMT_STANDOFF_4-0MM
designator H1_AGX?
ROUND STANDOFF M3X0.5 STEEL 4MM; Manufacturer 1: Würth Elektronik; Manufacturer Part Number 1: 9774040360R; Supplier 1: Digi-Key; Supplier Part Number 1: 732-5271-1-ND
footprint M3_SMT_4-0MM
pins: 0

## MAX485CSA
designator U?  Manufacturer Part Number 1: MAX485CSA+T
IC RS485 TRANSCEIVER HALF 1/1 8SOIC; Manufacturer 1: Maxim Integrated; Protocol: RS422, RS485; Data Rate: 2.5Mbps; Supply Voltage: 4.75V - 5.25V; Package/Footprint: 8-SOIC; Supplier 1: Digi-Key; Supplier Part Number 1: MAX485CSA+TCT-ND; Mounting Type: SMD; LCSC Part #: C9945
footprint SOIC127P600X175-8N
pins: 1 RO, 2 ~{RE}, 3 DE, 4 DI, 5 GND (power), 6 A, 7 B, 8 VCC (power)

## MAX3094ECUE+T
designator U?  Manufacturer Part Number: MAX3094ECUE+T  (hidden comment: *)
IC RECEIVER 0/4 16TSSOP; Rating: 3 - 3.6Vin
footprint SOP65P640X110-16N
pins: 1 A-, 2 A+, 3 YA (out), 4 ENAC (in), 5 YC (out), 6 C+, 7 C-, 8 GND (power), 9 D-, 10 D+, 11 YD (out), 12 ENBD (in), 13 YB (out), 14 B+, 15 B-, 16 VCC (power)

## MAX3490
designator U?  Manufacturer Part Number 1: MAX3490EESA+T
IC RS485 TRANSCEIVER FULL 8SOIC; Manufacturer 1: Maxim; Supplier 1: Digi-Key; Supplier Part Number 1: MAX3490EESA+CT-ND
footprint 8-SOIC_M (SOIC, 8-Leads, Body 5x4mm, Pitch 1.27mm, IPC Low Density)
pins: 1 VCC, 2 RO, 3 DI, 4 GND, 5 Y, 6 Z, 7 B, 8 A

## MAX3491
designator U?  Manufacturer Part Number 1: MAX3491CSD+T
IC RS485 TRANSCEIVER FULL 1/1 14SOIC; Manufacturer 1: Maxim; Package/Footprint: 14-SOIC; Supplier 1: Digi-Key; Mounting Type: SMD; Supplier Part Number 1: MAX3491CSD+CT-ND
footprint MAX3491CSD+T
pins: 1 NC, 2 RO "Receiver output", 3 REn "Receiver output enable", 4 DE "Driver input enable", 5 DI "Driver input", 6 GND, 7 GND, 8 NC, 9 Y "Noninverting driver output", 10 Z "Inverting driver output", 11 B "Inverting receiver input", 12 A "Non-inverting receiver input", 13 VCC, 14 VCC